# Altium schematic symbol library Basic Devices.SCHLIB: 237 symbols (part 2 of 2)
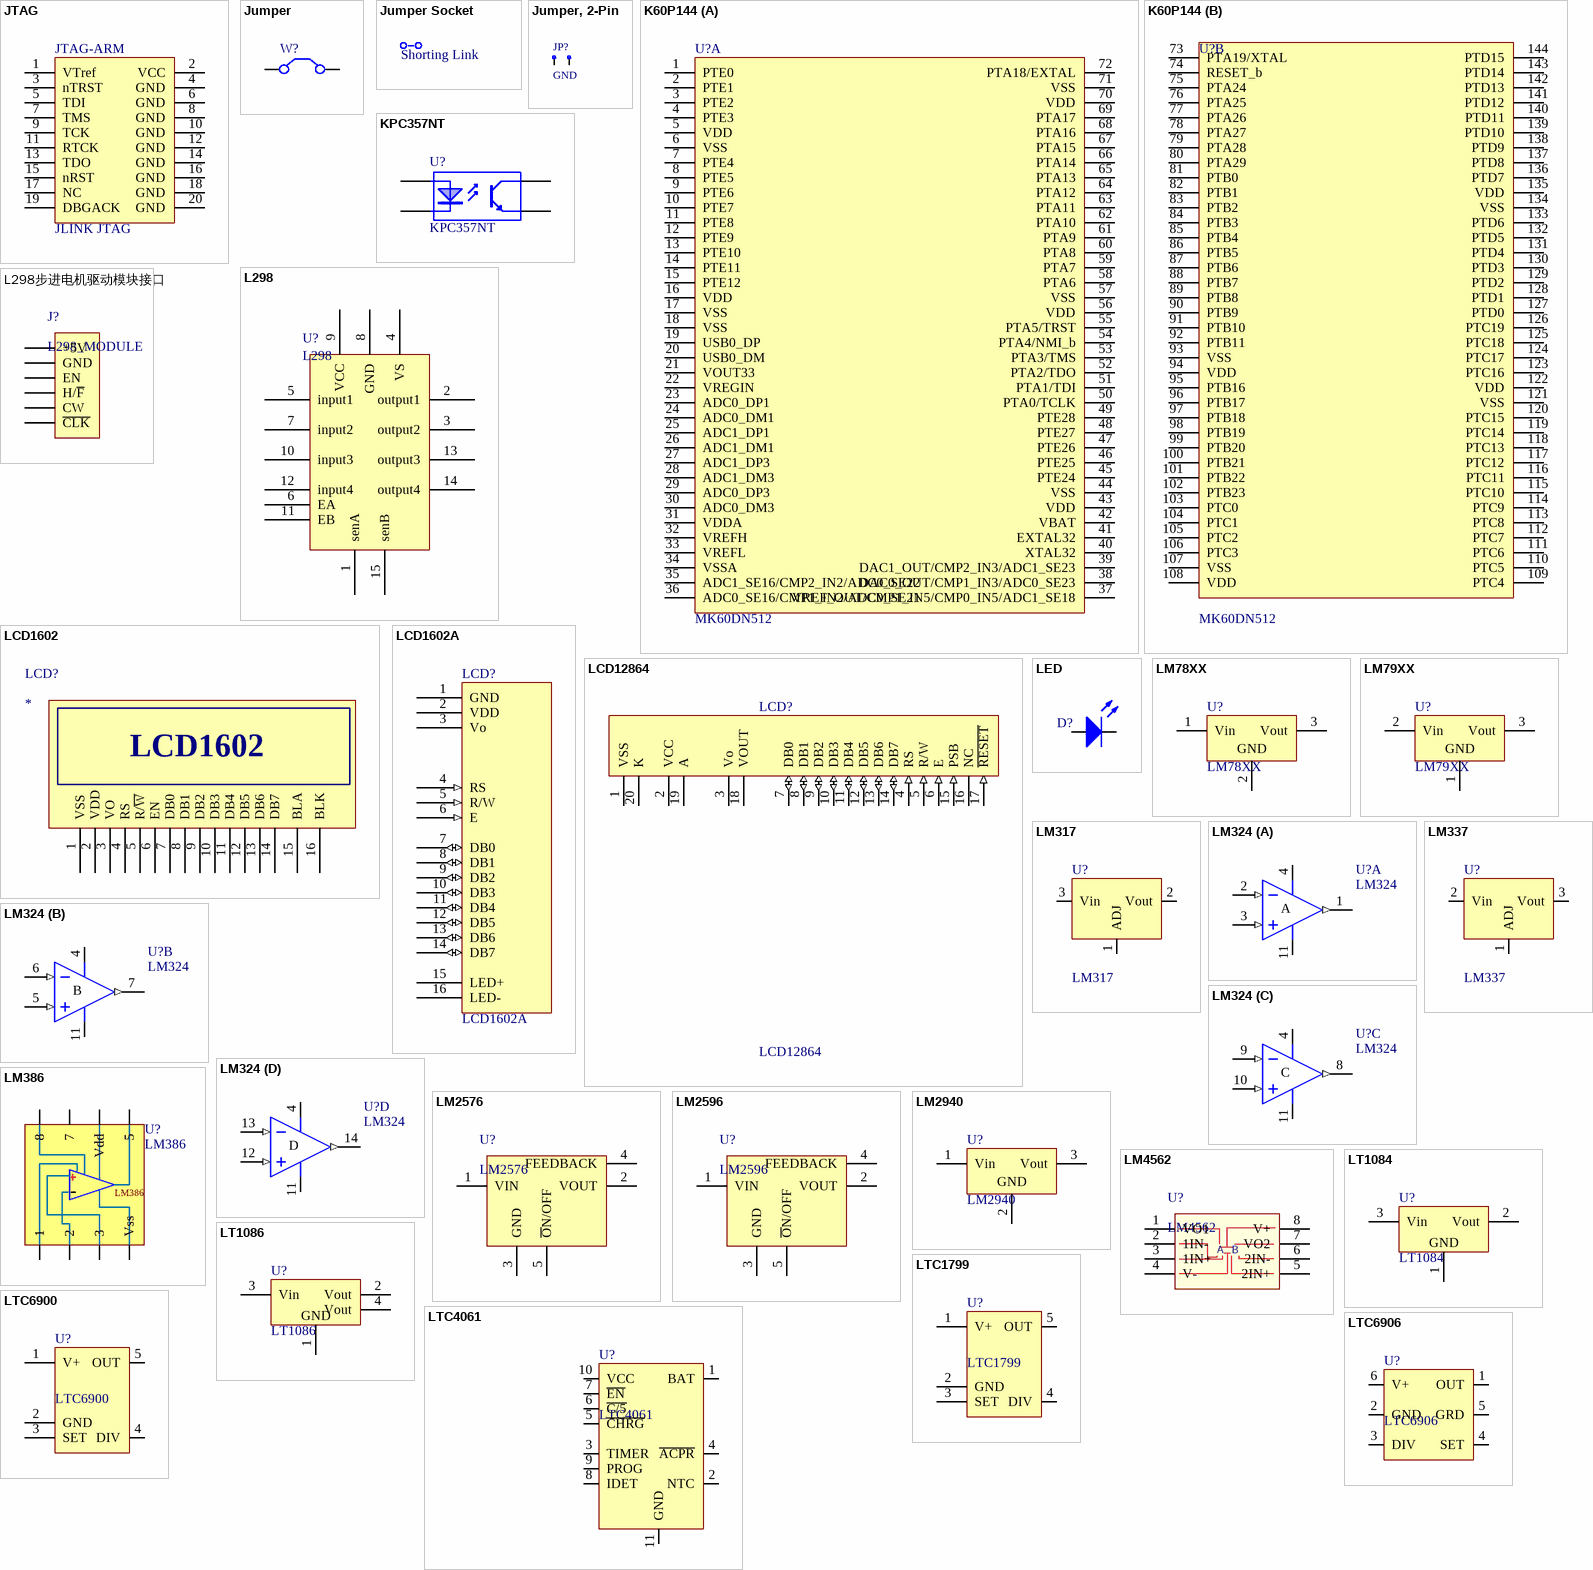
[diagram p9: symbols JTAG to LTC6906]

## LM324
designator U?
General Operational Amplifier; Published: 8-Jun-2000; LatestRevisionDate: 04-Mar-2005; LatestRevisionNote: Stylized 3D Model Added.; DatasheetVersion: REV. 0 1995; PackageVersion: 1999; PackageReference: N-14; Publisher: Altium Limited; PackageDescription: DIP; 14 Leads; Row Spacing 7.62 mm; Pitch 2.54 mm; ComponentLink1Description: Manufacturer Link; ComponentLink1URL: http://www.analog.com/en/prod/0,,759_786_AD8044%2C00.html; ComponentLink2Description: Datasheet; ComponentLink2URL: http://www.analog.com/UploadedFiles/Data_Sheets/631034639AD8044_b.pdf
footprint DIP-14 (DIP, 14-Leads, Row Spacing 300mil, Pitch 2.54mm, Body 19.2x6.3mm)
pins on every part: 4 V+ (power), 11 V- (power)
part A pins: 1 OUT (out), 2 IN- (in), 3 IN+ (in)
part B pins: 5 IN+ (in), 6 IN- (in), 7 OUT (out)
part C pins: 8 OUT (out), 9 IN- (in), 10 IN+ (in)
part D pins: 12 IN+ (in), 13 IN- (in), 14 OUT (out)
part A text: A
part B text: B
part C text: C
part D text: D

## LM337
designator U?
三端可调正电压稳压器
footprint TO-220AB
footprint TO-263
pins: 1 ADJ, 2 Vin, 3 Vout

## LM386
designator U?
低电压音频功率放大器
footprint DIP-8
pins: 1, 2, 3, 4 Vss, 5, 6 Vdd, 7, 8

## LM2576
designator U?
Step-Down Switching Regulator; NAME: GARRRETT
footprint DDPAK-5
footprint TO-220-5 (LM2576 PACKAGE)
pins: 1 VIN, 2 VOUT, 3 GND, 4 FEEDBACK, 5 ~{O}N/OFF

## LM2596
designator U?
Step-Down Switching Regulator; NAME: GARRETT
footprint DDPAK-5
footprint TO-220-5 (LM2576 PACKAGE)
pins: 1 VIN, 2 VOUT, 3 GND, 4 FEEDBACK, 5 ~{O}N/OFF

## LM2940
designator U?
Voltage Regulator; Published: 24-Mar-1999; LatestRevisionDate: 17-Jul-2002; LatestRevisionNote: Re-released for DXP Platform.; PackageReference: D2PAK; Publisher: Altium Limited; Code_JEDEC: SMD-220
footprint TO-220AB
footprint TO-263
pins: 1 Vin, 2 GND, 3 Vout
2 alternate drawings of the same symbol

## LM4562
designator U?
LM4562 Dual High-Performance, High-Fidelity Audio Operational Amplifier
footprint DIP-8
footprint SOP-8
pins: 1 VO1, 2 1IN-, 3 1IN+, 4 V-, 5 2IN+, 6 2IN-, 7 VO2, 8 V+
text: A; B

## LT1084
designator U?
3A Low Dropout Positive Regulators Adjustable and  Fixed 2.85V, 3.3V, 3.6V, 5V, 12V; Published: 2014-4-4; LatestRevisionDate: 17-Jul-2002; LatestRevisionNote: Re-released for DXP Platform.; PackageReference: TO-263; Publisher: 赵国涛; Code_JEDEC: SMD-220
footprint TO-220AB
pins: 1 GND, 2 Vout, 3 Vin

## LT1086
designator U?
1.5A Low Dropout Positive Regulators Adjustable and  Fixed 2.85V, 3.3V, 3.6V, 5V, 12V; Published: 2014-4-4; LatestRevisionDate: 17-Jul-2002; LatestRevisionNote: Re-released for DXP Platform.; PackageReference: TO-263; Publisher: 赵国涛; Code_JEDEC: SMD-220
footprint TO-263
pins: 1 GND, 2 Vout, 3 Vin, 4 Vout

## LTC1799
designator U?
Low Power, 1kHz to 30MHz   Resistor Set SOT-23 Oscillator; Published: 2014-4-4; LatestRevisionDate: 17-Jul-2002; LatestRevisionNote: Re-released for DXP Platform.; PackageReference: TO-263; Publisher: 赵国涛; Code_JEDEC: SMD-220
footprint SOT23-5 (SOT23, 5-Leads, Body 2.9x1.6mm, Pitch 0.95mm, Lead Span 2.8mm, IPC High Density)
pins: 1 V+, 2 GND, 3 SET, 4 DIV, 5 OUT

## LTC4061
designator U?
Standalone Linear Li-Ion Battery Charger with Thermistor Input; 应用: MP3、数码相机、平板等; Published: 2014-4-4; LatestRevisionDate: 17-Jul-2002; LatestRevisionNote: Re-released for DXP Platform.; PackageReference: DFN-10; Publisher: 赵国涛; Code_JEDEC: SMD-220
footprint DFN-10 (10-Lead Plastic DFN (3mm × 3mm); pitch 0.5mm)
pins: 1 BAT, 2 NTC, 3 TIMER, 4 ~{ACPR}, 5 ~{CHRG}, 6 ~{C/5}, 7 ~{EN}, 8 IDET, 9 PROG, 10 VCC, 11 GND

## LTC6900
designator U?
Low Power, 1kHz to 20MHz   Resistor Set SOT-23 Oscillator; Published: 2014-4-4; LatestRevisionDate: 17-Jul-2002; LatestRevisionNote: Re-released for DXP Platform.; PackageReference: TO-263; Publisher: 赵国涛; Code_JEDEC: SMD-220
footprint SOT23-5 (SOT23, 5-Leads, Body 2.9x1.6mm, Pitch 0.95mm, Lead Span 2.8mm, IPC High Density)
pins: 1 V+, 2 GND, 3 SET, 4 DIV, 5 OUT

## LTC6906
designator U?
Micropower, 10kHz to 1MHz   Resistor Set Oscillator   in SOT-23; Published: 2014-4-4; LatestRevisionDate: 17-Jul-2002; LatestRevisionNote: Re-released for DXP Platform.; PackageReference: TO-263; Publisher: 赵国涛; Code_JEDEC: SMD-220
footprint SOT23-6 (SOT-23-6)
pins: 1 OUT, 2 GND, 3 DIV, 4 SET, 5 GRD, 6 V+

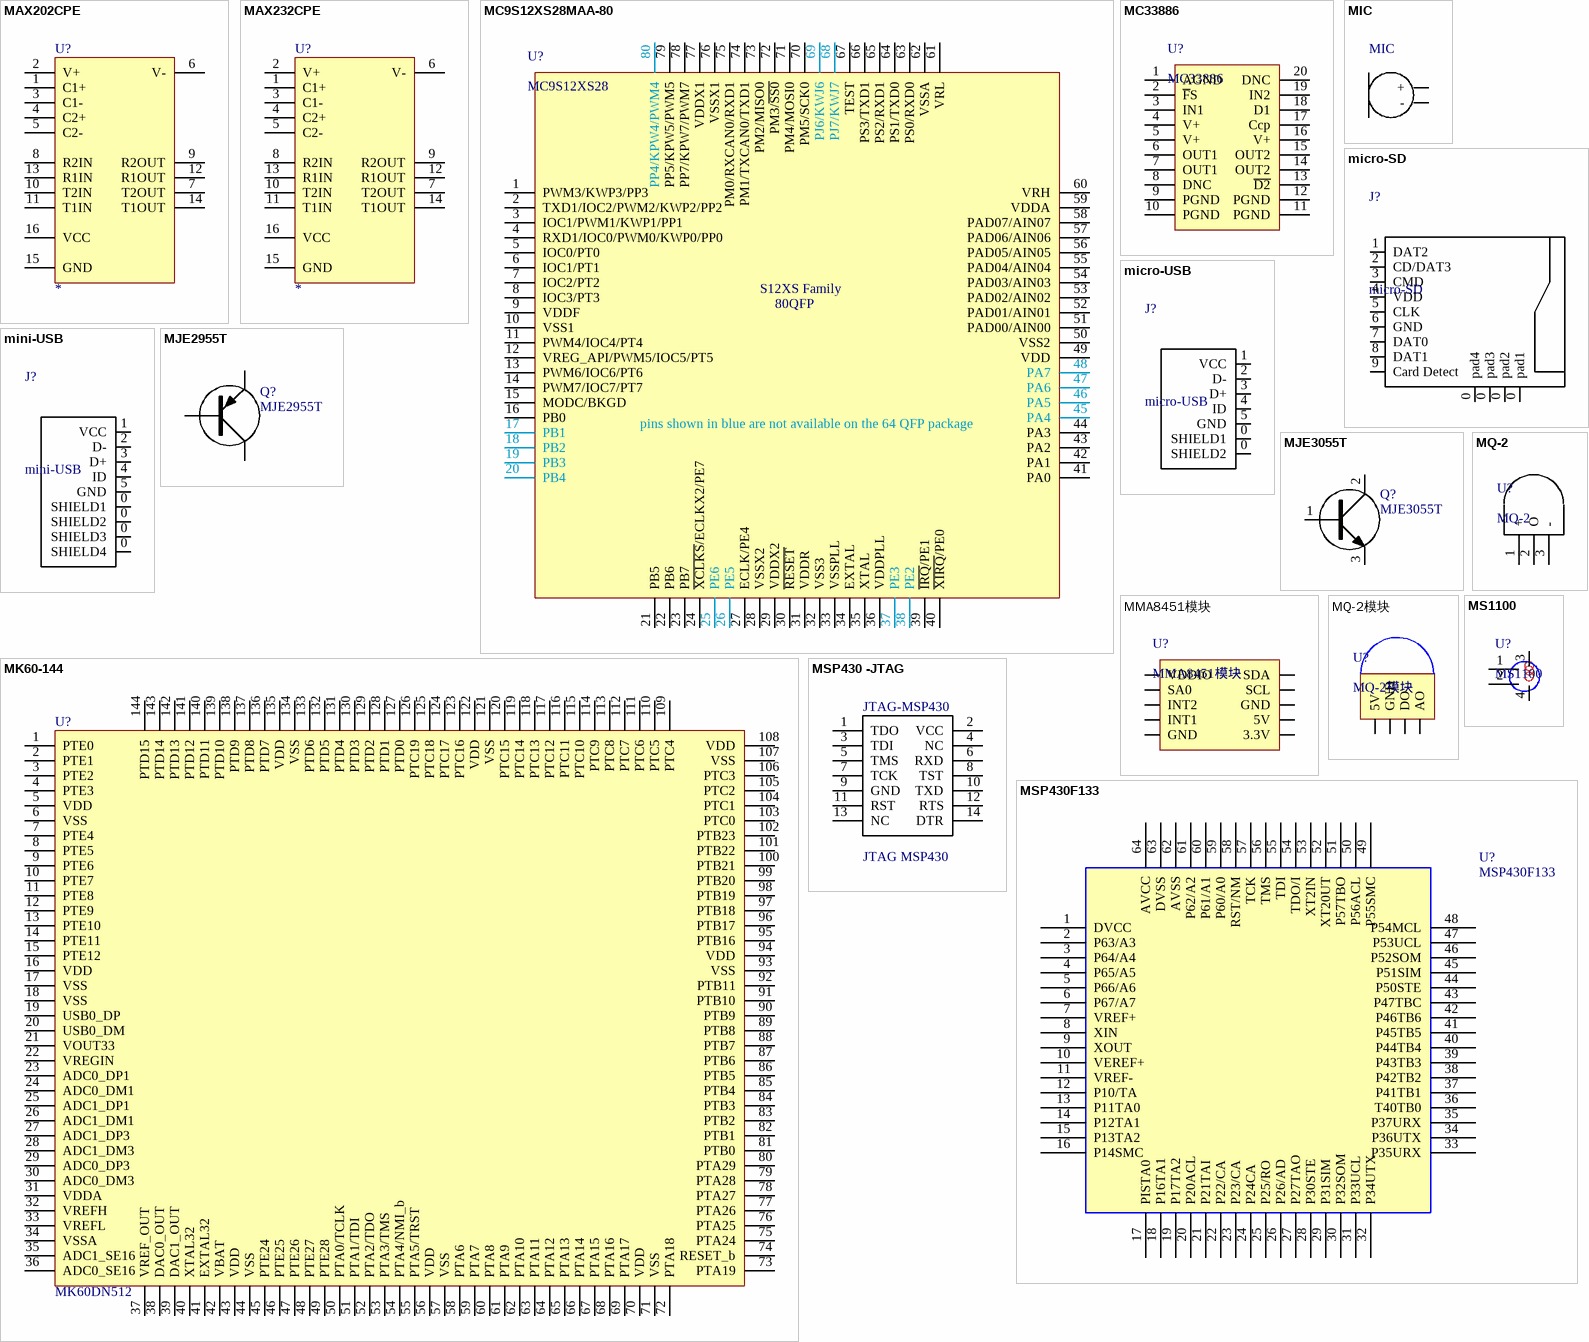
[diagram p4: symbols MAX202CPE to MSP430F133]

## MAX202CPE
designator U?
+5V-Powered, Multichannel RS-232
footprint DIP-16 (CHAZUO)
pins: 1 C1+, 2 V+, 3 C1-, 4 C2+, 5 C2-, 6 V-, 7 T2OUT, 8 R2IN, 9 R2OUT, 10 T2IN, 11 T1IN, 12 R1OUT, 13 R1IN, 14 T1OUT, 15 GND (power), 16 VCC (power)

## MAX232CPE
designator U?
RS232 TO TTL
footprint DIP-16 (CHAZUO)
pins: 1 C1+, 2 V+, 3 C1-, 4 C2+, 5 C2-, 6 V-, 7 T2OUT, 8 R2IN, 9 R2OUT, 10 T2IN, 11 T1IN, 12 R1OUT, 13 R1IN, 14 T1OUT, 15 GND (power), 16 VCC (power)

## MC9S12XS28MAA-80
designator U?, comment MC9S12XS28
飞思卡尔16位单片机; Publi: 胡浩; Published: 20110927
footprint QFP-80N (QFP, 80-Leads, Body 17.5x17.5mm (max), Pitch 0.65mm, IPC Medium Density)
pins: 1 PWM3/KWP3/PP3, 2 TXD1/IOC2/PWM2/KWP2/PP2, 3 IOC1/PWM1/KWP1/PP1, 4 RXD1/IOC0/PWM0/KWP0/PP0, 5 IOC0/PT0, 6 IOC1/PT1, 7 IOC2/PT2, 8 IOC3/PT3, 9 VDDF, 10 VSS1, 11 PWM4/IOC4/PT4, 12 VREG_API/PWM5/IOC5/PT5, 13 PWM6/IOC6/PT6, 14 PWM7/IOC7/PT7, 15 MODC/BKGD, 16 PB0, 17 PB1, 18 PB2, 19 PB3, 20 PB4, 21 PB5, 22 PB6, 23 PB7, 24 ~{XCLKS}/ECLKX2/PE7, 25 PE6, 26 PE5, 27 ECLK/PE4, 28 VSSX2, 29 VDDX2, 30 ~{RESET}, 31 VDDR, 32 VSS3, 33 VSSPLL, 34 EXTAL, 35 XTAL, 36 VDDPLL, 37 PE3, 38 PE2, 39 ~{IRQ}/PE1, 40 ~{XIRQ}/PE0, 41 PA0, 42 PA1, 43 PA2, 44 PA3, 45 PA4, 46 PA5, 47 PA6, 48 PA7, 49 VDD, 50 VSS2, 51 PAD00/AIN00, 52 PAD01/AIN01, 53 PAD02/AIN02, 54 PAD03/AIN03, 55 PAD04/AIN04, 56 PAD05/AIN05, 57 PAD06/AIN06, 58 PAD07/AIN07, 59 VDDA, 60 VRH, 61 VRL, 62 VSSA, 63 PS0/RXD0, 64 PS1/TXD0, 65 PS2/RXD1, 66 PS3/TXD1, 67 TEST, 68 PJ7/KWJ7, 69 PJ6/KWJ6, 70 PM5/SCK0, 71 PM4/MOSI0, 72 PM3/~{SS0}, 73 PM2/MISO0, 74 PM1/TXCAN0/TXD1, 75 PM0/RXCAN0/RXD1, 76 VSSX1, 77 VDDX1, 78 PP7/KPW7/PWM7, 79 PP5/KPW5/PWM5, 80 PP4/KPW4/PWM4
text: S12XS Family; 80QFP; pins shown in blue are not available on the 64 QFP package

## MC33886
designator U?
H brigde，5A
footprint HSOP20 (MC33886 PACKAGE)
pins: 1 AGND, 2 ~{F}S, 3 IN1, 4 V+, 5 V+, 6 OUT1, 7 OUT1, 8 DNC, 9 PGND, 10 PGND, 11 PGND, 12 PGND, 13 ~{D2}, 14 OUT2, 15 OUT2, 16 V+, 17 Ccp, 18 D1, 19 IN2, 20 DNC

## MIC
designator MIC, comment 驻极体话筒  (value not drawn)
Publisher: 赵国涛; Published: 2014.11.5
footprint BUZZER_200 (buzzer; 2 leads; 200mil;)
footprint 1001-2 (100mil pitch)
pins: 1 +, 2 -

## micro-SD
designator J?
micro sd卡座 记忆卡 座子;手机内存卡
footprint micro-sd - 2
pins: 0 pad1, 0 pad2, 0 pad3, 0 pad4, 1 DAT2, 2 CD/DAT3, 3 CMD, 4 VDD, 5 CLK, 6 GND, 7 DAT0, 8 DAT1, 9 Card Detect

## micro-USB
designator J?
micro-USB接口,母座;一般智能机用的
footprint micro-usb-smt1 (Micro USB母座；5 脚贴片)
footprint micro-usb-smt2
pins: 0 SHIELD1, 0 SHIELD2, 1 VCC, 2 D-, 3 D+, 4 ID, 5 GND

## mini-USB
designator J?
mini-USB接口,母座；一般开发板、MP3等设备用的
footprint mini-usb-dip (mini-USB；90度弯针 直插型；5Pin)
footprint mini_USB-SMT
pins: 0 SHIELD1, 0 SHIELD2, 0 SHIELD3, 0 SHIELD4, 1 VCC, 2 D-, 3 D+, 4 ID, 5 GND

## MJE2955T
designator Q?
PNP Silicon Transistor;General Purpose and Switching Applications
footprint IRF640+散热片
footprint IRFP260带散热片
footprint irf640/散热片
footprint TO-220AB
pins: 1 B, 2 C, 3 E
2 alternate drawings of the same symbol

## MJE3055T
designator Q?
iscSilicon NPN Power Transistor
footprint TO-220AB
footprint IRF640+散热片
footprint IRFP260带散热片
footprint irf640/散热片
pins: 1, 2, 3
2 alternate drawings of the same symbol

## MK60-144
designator U?, comment MK60DN512
footprint LQFP144 (LQFP144; Freescale mk60)
footprint TQFP-144 (Thin QFP, 144-Leads, Body 20x20mm, Pitch 0.5mm, IPC High Density)
pins: 1 PTE0, 2 PTE1, 3 PTE2, 4 PTE3, 5 VDD, 6 VSS, 7 PTE4, 8 PTE5, 9 PTE6, 10 PTE7, 11 PTE8, 12 PTE9, 13 PTE10, 14 PTE11, 15 PTE12, 16 VDD, 17 VSS, 18 VSS, 19 USB0_DP, 20 USB0_DM, 21 VOUT33, 22 VREGIN, 23 ADC0_DP1, 24 ADC0_DM1, 25 ADC1_DP1, 26 ADC1_DM1, 27 ADC1_DP3, 28 ADC1_DM3, 29 ADC0_DP3, 30 ADC0_DM3, 31 VDDA, 32 VREFH, 33 VREFL, 34 VSSA, 35 ADC1_SE16, 36 ADC0_SE16, 37 VREF_OUT, 38 DAC0_OUT, 39 DAC1_OUT, 40 XTAL32, 41 EXTAL32, 42 VBAT, 43 VDD, 44 VSS, 45 PTE24, 46 PTE25, 47 PTE26, 48 PTE27, 49 PTE28, 50 PTA0/TCLK, 51 PTA1/TDI, 52 PTA2/TDO, 53 PTA3/TMS, 54 PTA4/NMI_b, 55 PTA5/TRST, 56 VDD, 57 VSS, 58 PTA6, 59 PTA7, 60 PTA8, 61 PTA9, 62 PTA10, 63 PTA11, 64 PTA12, 65 PTA13, 66 PTA14, 67 PTA15, 68 PTA16, 69 PTA17, 70 VDD, 71 VSS, 72 PTA18, 73 PTA19, 74 RESET_b, 75 PTA24, 76 PTA25, 77 PTA26, 78 PTA27, 79 PTA28, 80 PTA29, 81 PTB0, 82 PTB1, 83 PTB2, 84 PTB3, 85 PTB4, 86 PTB5, 87 PTB6, 88 PTB7, 89 PTB8, 90 PTB9, 91 PTB10, 92 PTB11, 93 VSS, 94 VDD, 95 PTB16, 96 PTB17, 97 PTB18, 98 PTB19, 99 PTB20, 100 PTB21, 101 PTB22, 102 PTB23, 103 PTC0, 104 PTC1, 105 PTC2, 106 PTC3, 107 VSS, 108 VDD, 109 PTC4, 110 PTC5, 111 PTC6, 112 PTC7, 113 PTC8, 114 PTC9, 115 PTC10, 116 PTC11, 117 PTC12, 118 PTC13, 119 PTC14, 120 PTC15, 121 VSS, 122 VDD, 123 PTC16, 124 PTC17, 125 PTC18, 126 PTC19, 127 PTD0, 128 PTD1, 129 PTD2, 130 PTD3, 131 PTD4, 132 PTD5, 133 PTD6, 134 VSS, 135 VDD, 136 PTD7, 137 PTD8, 138 PTD9, 139 PTD10, 140 PTD11, 141 PTD12, 142 PTD13, 143 PTD14, 144 PTD15

## MMA8451模块
designator U?
MMA8451模块封装; Publisher: 赵国涛; Published: 20110214
footprint MMA8451模块 (MMA8451模块封装，21mmX15mm,PITCH 700mil)
pins: 1 VDDIO, 2 SA0, 3 INT2, 4 INT1, 5 GND, 6 3.3V, 7 5V, 8 GND, 9 SCL, 10 SDA

## MQ-2
designator U?
可燃气体传感器
pins: 1 +, 2 O, 3 -

## MQ-2模块
designator U?
可燃气体传感器MQ-2模块
footprint 1001-4 (Connector; Header; 4 Position)
pins: 1 5V, 2 GND, 3 DO, 4 AO

## MS1100
designator U?
MS1100: 气体传感器
footprint TO-39 -4 (MS1100)
pins: 1, 2, 3, 4

## MSP430 -JTAG
designator JTAG-MSP430, comment JTAG MSP430
JTAG PIN FOR MSP430; LatestRevisionDate: 17-Jul-2002; LatestRevisionNote: Re-released for DXP Platform.; Publisher: Altium Limited
footprint P2X7 (Connector; Header; 7x2 Position)
pins: 1 TDO, 2 VCC, 3 TDI, 4 NC, 5 TMS, 6 RXD, 7 TCK, 8 TST, 9 GND, 10 TXD, 11 RST, 12 RTS, 13 NC, 14 DTR

## MSP430F133
designator U?
TI MSP430系列单片机
footprint QFP-64 (Thin QFP, 64-Leads, Body 10x10mm, Pitch 0.5mm, IPC High Density)
pins: 1 DVCC, 2 P63/A3, 3 P64/A4, 4 P65/A5, 5 P66/A6, 6 P67/A7, 7 VREF+, 8 XIN, 9 XOUT, 10 VEREF+, 11 VREF-, 12 P10/TA, 13 P11TA0, 14 P12TA1, 15 P13TA2, 16 P14SMC, 17 PISTA0, 18 P16TA1, 19 P17TA2, 20 P20ACL, 21 P21TAI, 22 P22/CA, 23 P23/CA, 24 P24CA, 25 P25/RO, 26 P26/AD, 27 P27TAO, 28 P30STE, 29 P31SIM, 30 P32SOM, 31 P33UCL, 32 P34UTX, 33 P35URX, 34 P36UTX, 35 P37URX, 36 T40TB0, 37 P41TB1, 38 P42TB2, 39 P43TB3, 40 P44TB4, 41 P45TB5, 42 P46TB6, 43 P47TBC, 44 P50STE, 45 P51SIM, 46 P52SOM, 47 P53UCL, 48 P54MCL, 49 P55SMC, 50 P56ACL, 51 P57TBO, 52 XT20UT, 53 XT2IN, 54 TDO/I, 55 TDI, 56 TMS, 57 TCK, 58 RST/NM, 59 P60/A0, 60 P61/A1, 61 P62/A2, 62 AVSS, 63 DVSS, 64 AVCC

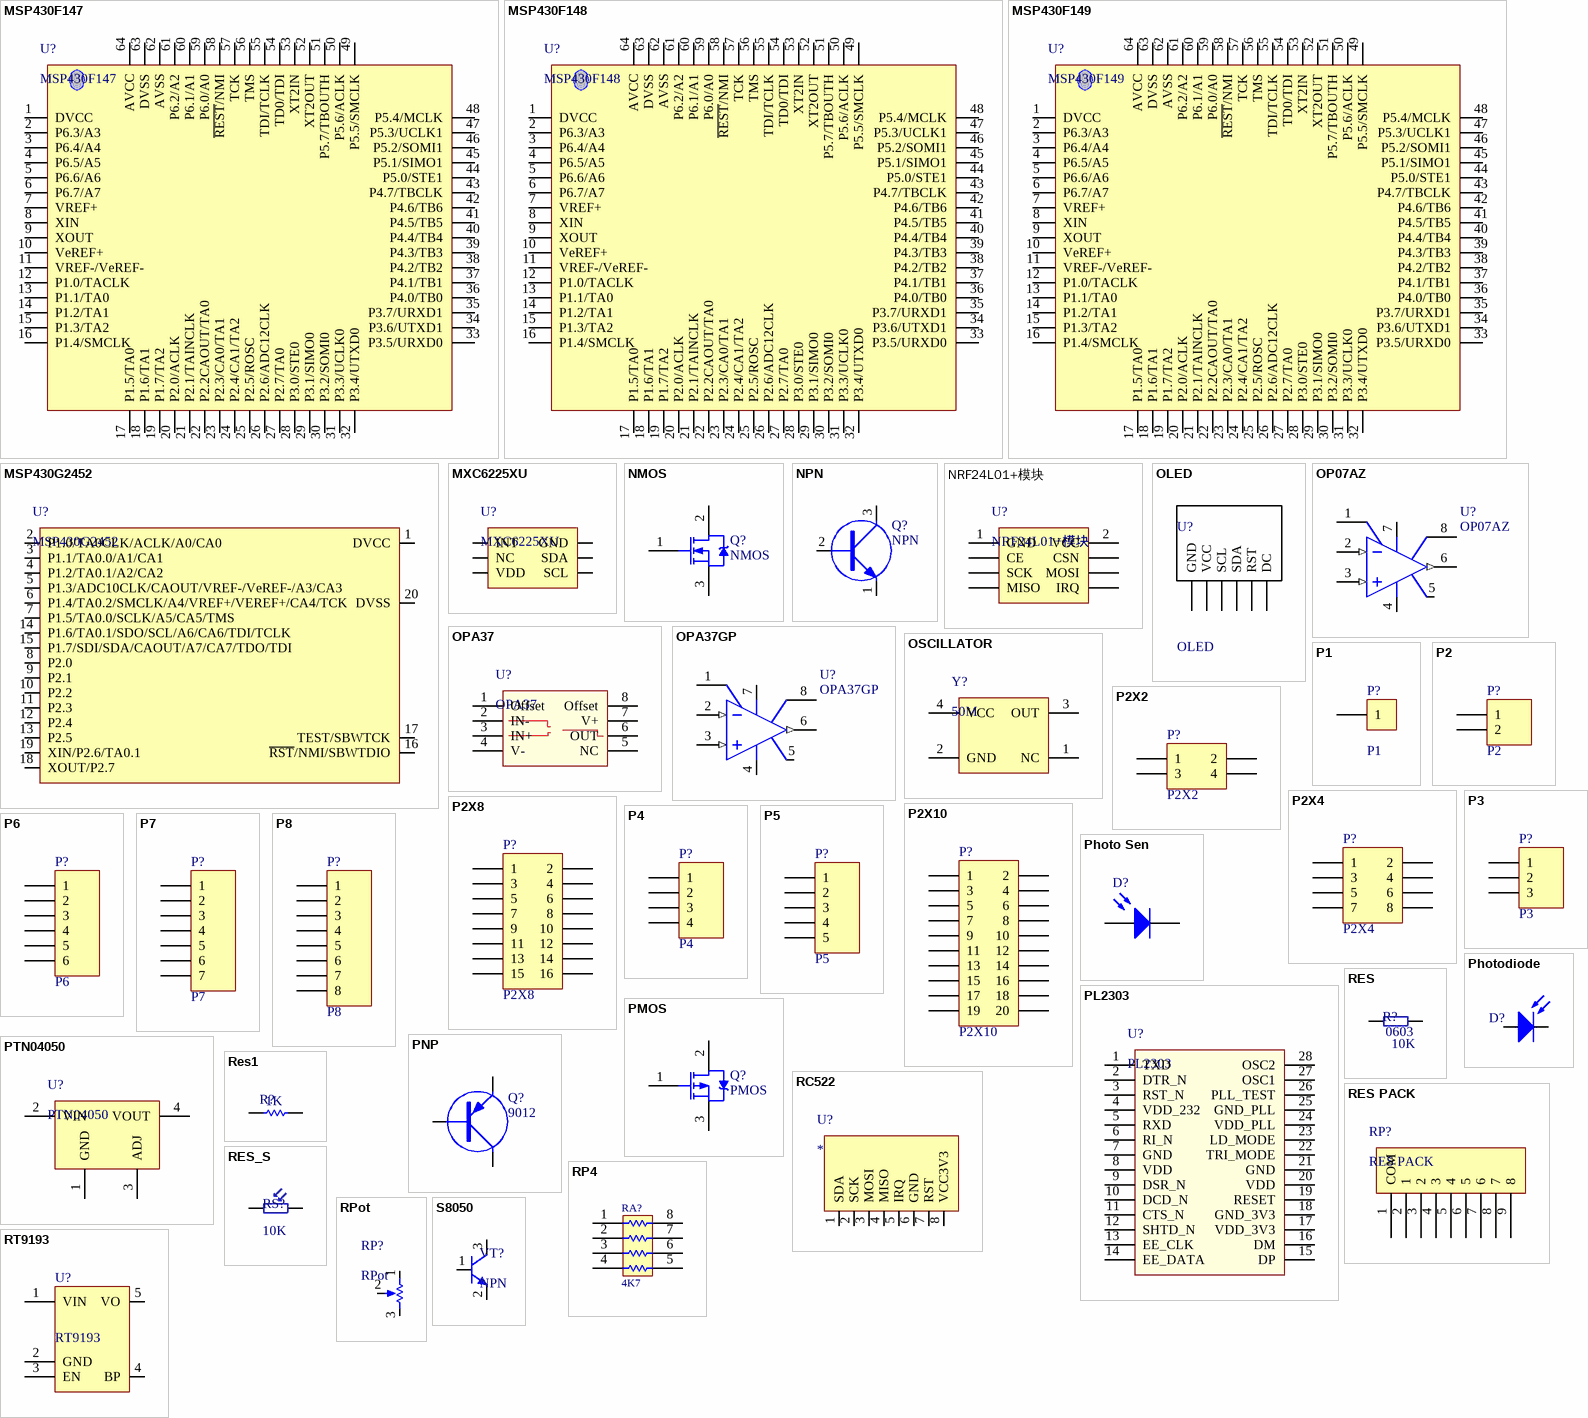
[diagram p5: symbols MSP430F147 to S8050]

## MSP430F147
designator U?
TI MSP430系列单片机：支持147、148、149; 作者: 赵国涛
footprint QFP-64 (Thin QFP, 64-Leads, Body 10x10mm, Pitch 0.5mm, IPC High Density)
pins: 1 DVCC, 2 P6.3/A3, 3 P6.4/A4, 4 P6.5/A5, 5 P6.6/A6, 6 P6.7/A7, 7 VREF+, 8 XIN, 9 XOUT, 10 VeREF+, 11 VREF-/VeREF-, 12 P1.0/TACLK, 13 P1.1/TA0, 14 P1.2/TA1, 15 P1.3/TA2, 16 P1.4/SMCLK, 17 P1.5/TA0, 18 P1.6/TA1, 19 P1.7/TA2, 20 P2.0/ACLK, 21 P2.1/TAINCLK, 22 P2.2CAOUT/TA0, 23 P2.3/CA0/TA1, 24 P2.4/CA1/TA2, 25 P2.5/ROSC, 26 P2.6/ADC12CLK, 27 P2.7/TA0, 28 P3.0/STE0, 29 P3.1/SIMO0, 30 P3.2/SOMI0, 31 P3.3/UCLK0, 32 P3.4/UTXD0, 33 P3.5/URXD0, 34 P3.6/UTXD1, 35 P3.7/URXD1, 36 P4.0/TB0, 37 P4.1/TB1, 38 P4.2/TB2, 39 P4.3/TB3, 40 P4.4/TB4, 41 P4.5/TB5, 42 P4.6/TB6, 43 P4.7/TBCLK, 44 P5.0/STE1, 45 P5.1/SIMO1, 46 P5.2/SOMI1, 47 P5.3/UCLK1, 48 P5.4/MCLK, 49 P5.5/SMCLK, 50 P5.6/ACLK, 51 P5.7/TBOUTH, 52 XT2OUT, 53 XT2IN, 54 TD0/TDI, 55 TDI/TCLK, 56 TMS, 57 TCK, 58 ~{REST}/NMI, 59 P6.0/A0, 60 P6.1/A1, 61 P6.2/A2, 62 AVSS, 63 DVSS, 64 AVCC

## MSP430F148
designator U?
TI MSP430系列单片机：支持147、148、149; 作者: 赵国涛
footprint QFP-64 (Thin QFP, 64-Leads, Body 10x10mm, Pitch 0.5mm, IPC High Density)
pins: 1 DVCC, 2 P6.3/A3, 3 P6.4/A4, 4 P6.5/A5, 5 P6.6/A6, 6 P6.7/A7, 7 VREF+, 8 XIN, 9 XOUT, 10 VeREF+, 11 VREF-/VeREF-, 12 P1.0/TACLK, 13 P1.1/TA0, 14 P1.2/TA1, 15 P1.3/TA2, 16 P1.4/SMCLK, 17 P1.5/TA0, 18 P1.6/TA1, 19 P1.7/TA2, 20 P2.0/ACLK, 21 P2.1/TAINCLK, 22 P2.2CAOUT/TA0, 23 P2.3/CA0/TA1, 24 P2.4/CA1/TA2, 25 P2.5/ROSC, 26 P2.6/ADC12CLK, 27 P2.7/TA0, 28 P3.0/STE0, 29 P3.1/SIMO0, 30 P3.2/SOMI0, 31 P3.3/UCLK0, 32 P3.4/UTXD0, 33 P3.5/URXD0, 34 P3.6/UTXD1, 35 P3.7/URXD1, 36 P4.0/TB0, 37 P4.1/TB1, 38 P4.2/TB2, 39 P4.3/TB3, 40 P4.4/TB4, 41 P4.5/TB5, 42 P4.6/TB6, 43 P4.7/TBCLK, 44 P5.0/STE1, 45 P5.1/SIMO1, 46 P5.2/SOMI1, 47 P5.3/UCLK1, 48 P5.4/MCLK, 49 P5.5/SMCLK, 50 P5.6/ACLK, 51 P5.7/TBOUTH, 52 XT2OUT, 53 XT2IN, 54 TD0/TDI, 55 TDI/TCLK, 56 TMS, 57 TCK, 58 ~{REST}/NMI, 59 P6.0/A0, 60 P6.1/A1, 61 P6.2/A2, 62 AVSS, 63 DVSS, 64 AVCC

## MSP430F149
designator U?
TI MSP430系列单片机：支持147、148、149; 作者: 赵国涛
footprint QFP-64 (Thin QFP, 64-Leads, Body 10x10mm, Pitch 0.5mm, IPC High Density)
pins: 1 DVCC, 2 P6.3/A3, 3 P6.4/A4, 4 P6.5/A5, 5 P6.6/A6, 6 P6.7/A7, 7 VREF+, 8 XIN, 9 XOUT, 10 VeREF+, 11 VREF-/VeREF-, 12 P1.0/TACLK, 13 P1.1/TA0, 14 P1.2/TA1, 15 P1.3/TA2, 16 P1.4/SMCLK, 17 P1.5/TA0, 18 P1.6/TA1, 19 P1.7/TA2, 20 P2.0/ACLK, 21 P2.1/TAINCLK, 22 P2.2CAOUT/TA0, 23 P2.3/CA0/TA1, 24 P2.4/CA1/TA2, 25 P2.5/ROSC, 26 P2.6/ADC12CLK, 27 P2.7/TA0, 28 P3.0/STE0, 29 P3.1/SIMO0, 30 P3.2/SOMI0, 31 P3.3/UCLK0, 32 P3.4/UTXD0, 33 P3.5/URXD0, 34 P3.6/UTXD1, 35 P3.7/URXD1, 36 P4.0/TB0, 37 P4.1/TB1, 38 P4.2/TB2, 39 P4.3/TB3, 40 P4.4/TB4, 41 P4.5/TB5, 42 P4.6/TB6, 43 P4.7/TBCLK, 44 P5.0/STE1, 45 P5.1/SIMO1, 46 P5.2/SOMI1, 47 P5.3/UCLK1, 48 P5.4/MCLK, 49 P5.5/SMCLK, 50 P5.6/ACLK, 51 P5.7/TBOUTH, 52 XT2OUT, 53 XT2IN, 54 TD0/TDI, 55 TDI/TCLK, 56 TMS, 57 TCK, 58 ~{REST}/NMI, 59 P6.0/A0, 60 P6.1/A1, 61 P6.2/A2, 62 AVSS, 63 DVSS, 64 AVCC

## MSP430G2452
designator U?
MSP430; 作者: 赵国涛
footprint DIP-20 (WIDTH:300MIL)
pins: 1 DVCC, 2 P1.0/TA0CLK/ACLK/A0/CA0, 3 P1.1/TA0.0/A1/CA1, 4 P1.2/TA0.1/A2/CA2, 5 P1.3/ADC10CLK/CAOUT/VREF-/VeREF-/A3/CA3, 6 P1.4/TA0.2/SMCLK/A4/VREF+/VEREF+/CA4/TCK, 7 P1.5/TA0.0/SCLK/A5/CA5/TMS, 8 P2.0, 9 P2.1, 10 P2.2, 11 P2.3, 12 P2.4, 13 P2.5, 14 P1.6/TA0.1/SDO/SCL/A6/CA6/TDI/TCLK, 15 P1.7/SDI/SDA/CAOUT/A7/CA7/TDO/TDI, 16 ~{RST}/NMI/SBWTDIO, 17 TEST/SBWTCK, 18 XOUT/P2.7, 19 XIN/P2.6/TA0.1, 20 DVSS

## MXC6225XU
designator U?
MXC6225XU:X-Y ACCE; Publisher: 赵国涛; Published: 20110214
footprint MXC6225XU
pins: 1 INT, 2 NC, 3 VDD, 4 SCL, 5 SDA, 6 GND

## NMOS
designator Q?
N-Channel Power MOSFET; Note: Pin 2 is electrically connected to pin 4.; Published: 8-Jun-2000; LatestRevisionDate: 17-Jul-2002; LatestRevisionNote: Re-released for DXP Platform.; DatasheetVersion: PD-9.814; PackageVersion: Feb-1997; PackageReference: TO-220AB; Publisher: Altium Limited; PackageDescription: TO, Thru-Hole, Vertical, Heatsink Mounted; 3 In-Line Leads; Pitch 2.54 mm; ComponentLink1Description: Manufacturer Link; ComponentLink1URL: http://www.irf.com/
footprint TO-220AB (TO, Thru-Hole, Vertical, Heatsink Mounted; 3 In-Line Leads; Pitch 2.54 mm)
footprint IRF640+散热片
footprint irf640/散热片
footprint IRFP260带散热片
pins: 1 G, 2 D, 3 S

## NPN
designator Q?
NPN晶体管
footprint TO-92
footprint TO-92A
footprint SOT23-3
footprint TO-220AB
footprint IRF640+散热片
footprint TO-92B
footprint TO-92C (50mil)
pins: 1, 2, 3
2 alternate drawings of the same symbol

## NRF24L01+模块
designator U?
footprint NRF24L01_MODULE (NRF24L01_模块；33mmX15.2mm)
pins: 1 GND, 2 VCC, 3 CE, 4 CSN, 5 SCK, 6 MOSI, 7 MISO, 8 IRQ

## OLED
designator U?
OLED interface; LatestRevisionDate: 17-Jul-2002; LatestRevisionNote: Re-released for DXP Platform.; Publisher: Altium Limited
footprint 1001-6 (Connector; Header; 6 Position)
pins: 1 GND, 2 VCC, 3 SCL, 4 SDA, 5 RST, 6 DC

## OP07AZ
designator U?
Ultra-Low Offset Voltage Operational Amplifier; Note: Pin 5 is not connected.; Published: 8-Jun-2000; LatestRevisionDate: 04-Mar-2005; LatestRevisionNote: Stylized 3D Model Added.; DatasheetVersion: 1992; PackageVersion: 1998; PackageReference: Q-8; Publisher: Altium Limited; PackageDescription: DIP; 8 Leads; Row Spacing 7.62 mm; Pitch 2.54 mm; ComponentLink1Description: Manufacturer Link; ComponentLink1URL: http://www.analog.com/en/prod/0,,759_786_OP07%2C00.html; ComponentLink2Description: Datasheet; ComponentLink2URL: http://www.analog.com/UploadedFiles/Data_Sheets/39161232478959OP07_c.pdf
footprint DIP-8
pins: 1 VOSTRIM, 2 IN- (in), 3 IN+ (in), 4 V- (power), 5 NC, 6 OUT (out), 7 V+ (power), 8 VOSTRIM

## OPA37
designator U?
Ultra-Low Noise, Precision  OPERATIONAL AMPLIFIERS
footprint DIP-8
footprint SOP-8
pins: 1 Offset, 2 IN-, 3 IN+, 4 V-, 5 NC, 6 OUT, 7 V+, 8 Offset

## OPA37GP
designator U?
OPA37GP 精密运放; Note: Pin 5 is not connected.; Published: 8-Jun-2000; LatestRevisionDate: 04-Mar-2005; LatestRevisionNote: Stylized 3D Model Added.; DatasheetVersion: 1992; PackageVersion: 1998; PackageReference: Q-8; Publisher: Altium Limited; PackageDescription: DIP; 8 Leads; Row Spacing 7.62 mm; Pitch 2.54 mm; ComponentLink1Description: Manufacturer Link; ComponentLink1URL: http://www.analog.com/en/prod/0,,759_786_OP07%2C00.html; ComponentLink2Description: Datasheet; ComponentLink2URL: http://www.analog.com/UploadedFiles/Data_Sheets/39161232478959OP07_c.pdf
footprint DIP-8
pins: 1 VOSTRIM, 2 IN- (in), 3 IN+ (in), 4 V- (power), 5 NC, 6 OUT (out), 7 V+ (power), 8 VOSTRIM

## OSCILLATOR
designator Y?, comment 50M
有源晶振; Publisher: 赵国涛; Published: 20100214
footprint 7050 (有源晶振封装;0.5 - 125 MHz; 5.0mmX7.0mm//5070)
footprint QSMO_4200 (有源晶振封装)
pins: 1 NC, 2 GND, 3 OUT, 4 VCC

## P1
designator P?
Header, 2-Pin; LatestRevisionDate: 17-Jul-2002; LatestRevisionNote: Re-released for DXP Platform.; Publisher: Altium Limited
footprint 1001-1 (插针;Pin 1)
pins: 1

## P2
designator P?
Header, 2-Pin; LatestRevisionDate: 17-Jul-2002; LatestRevisionNote: Re-released for DXP Platform.; Publisher: Altium Limited
footprint 1001-2 (Connector; Header; 2 Position)
footprint 050-2 (Connector; Header; 92Position)
footprint 接线端子
pins: 1, 2

## P2X2
designator P?
Header, 2-Pin, Dual row; LatestRevisionDate: 17-Jul-2002; LatestRevisionNote: Re-released for DXP Platform.; Publisher: Altium Limited
footprint P2X2 (Connector; Header; 2x2 Position)
pins: 1, 2, 3, 4

## P2X4
designator P?
Header, 4-Pin, Dual row; LatestRevisionDate: 17-Jul-2002; LatestRevisionNote: Re-released for DXP Platform.; Publisher: 赵国涛
footprint P2X4 (Connector; Header; 4x2 Position)
signal-integrity model Connector
pins: 1, 2, 3, 4, 5, 6, 7, 8

## P2X8
designator P?
Header, 8-Pin, Dual row; LatestRevisionDate: 17-Jul-2002; LatestRevisionNote: Re-released for DXP Platform.; Publisher: Altium Limited
footprint P2X8 (Connector; Header; 8x2 Position)
pins: 1, 2, 3, 4, 5, 6, 7, 8, 9, 10, 11, 12, 13, 14, 15, 16

## P2X10
designator P?
Header, 10-Pin, Dual row; LatestRevisionDate: 17-Jul-2002; LatestRevisionNote: Re-released for DXP Platform.; Publisher: Altium Limited
footprint P2X10 (Connector; Header; 10x2 Position)
signal-integrity model Connector
footprint P2X10B (Connector; Header; 10x2 Position;表贴)
pins: 1, 2, 3, 4, 5, 6, 7, 8, 9, 10, 11, 12, 13, 14, 15, 16, 17, 18, 19, 20

## P3
designator P?
Header, 3-Pin; LatestRevisionDate: 17-Jul-2002; LatestRevisionNote: Re-released for DXP Platform.; Publisher: Altium Limited
footprint 1001-3 (Connector; Header; 3 Position)
signal-integrity model Connector
footprint 050-3 (Connector; Header; 3Position)
footprint 接线端子3口
pins: 1, 2, 3

## P4
designator P?
Header, 4-Pin; LatestRevisionDate: 17-Jul-2002; LatestRevisionNote: Re-released for DXP Platform.; Publisher: Altium Limited
footprint 1001-4 (Connector; Header; 4 Position)
signal-integrity model Connector
pins: 1, 2, 3, 4

## P5
designator P?
Header, 5-Pin; LatestRevisionDate: 17-Jul-2002; LatestRevisionNote: Re-released for DXP Platform.; Publisher: Altium Limited
footprint 1001-5 (Connector; Header; 5 Position)
signal-integrity model Connector
pins: 1, 2, 3, 4, 5

## P6
designator P?
Header, 6-Pin; LatestRevisionDate: 17-Jul-2002; LatestRevisionNote: Re-released for DXP Platform.; Publisher: Altium Limited
footprint 1001-6 (Connector; Header; 6 Position)
pins: 1, 2, 3, 4, 5, 6

## P7
designator P?
Header, 7-Pin; LatestRevisionDate: 17-Jul-2002; LatestRevisionNote: Re-released for DXP Platform.; Publisher: Altium Limited
footprint 1001-7 (Connector; Header; 7 Position)
signal-integrity model Connector
pins: 1, 2, 3, 4, 5, 6, 7

## P8
designator P?
Header, 8-Pin; LatestRevisionDate: 17-Jul-2002; LatestRevisionNote: Re-released for DXP Platform.; Publisher: Altium Limited
footprint 1001-8 (Connector; Header; 8 Position)
signal-integrity model Connector
pins: 1, 2, 3, 4, 5, 6, 7, 8

## Photo Sen
designator D?
Photosensitive Diode; Published: 24-Mar-1999; LatestRevisionDate: 17-Jul-2002; LatestRevisionNote: Re-released for DXP Platform.; PackageReference: PIN2; Publisher: Altium Limited
footprint LED-A (LED-A; 2  leads)
pins: 1 A, 2 K

## Photodiode
designator D?  (value not drawn)
光电二极管; Published: 8-Jun-2000; LatestRevisionDate: 08-Jul-2005; LatestRevisionNote: Mech Layer 1 removed.; PackageReference: LED-0; Publisher: Altium Limited
footprint LED-A (LED-A; 2  leads)
footprint SMT_LED
pins: 1 正极, 2 负极
2 alternate drawings of the same symbol

## PL2303
designator U?
USB To Serial; Publisher: 胡浩; Published: 20120205
footprint SOP-28 (SOP, 28-Leads, Body 9.7x4.4mm, Pitch 0.65mm, IPC High Density)
pins: 1 TXD, 2 DTR_N, 3 RST_N, 4 VDD_232, 5 RXD, 6 RI_N, 7 GND, 8 VDD, 9 DSR_N, 10 DCD_N, 11 CTS_N, 12 SHTD_N, 13 EE_CLK, 14 EE_DATA, 15 DP "D+", 16 DM "D-", 17 VDD_3V3, 18 GND_3V3, 19 RESET, 20 VDD, 21 GND, 22 TRI_MODE, 23 LD_MODE, 24 VDD_PLL, 25 GND_PLL, 26 PLL_TEST, 27 OSC1, 28 OSC2

## PMOS
designator Q?
P-Channel Power MOSFET; Note: Pin 4 not drawn and electrically connected to Pin 2.; Published: 8-Jun-2000; LatestRevisionDate: 17-Jul-2002; LatestRevisionNote: Re-released for DXP Platform.; DatasheetVersion: PD-9.390D; PackageVersion: Feb-1997; PackageReference: TO-220AB; Publisher: Altium Limited; PackageDescription: TO, Thru-Hole, Vertical, Heatsink Mounted; 3 In-Line Leads; Pitch 2.54 mm; ComponentLink1Description: Manufacturer Link; ComponentLink1URL: http://www.irf.com/
footprint TO-220AB (TO, Thru-Hole, Vertical, Heatsink Mounted; 3 In-Line Leads; Pitch 2.54 mm)
footprint IRF640+散热片
footprint IRFP260带散热片
pins: 1 G, 2 D, 3 S

## PNP
designator Q?, comment 9012
PNP晶体管
footprint TO-92
footprint TO-92A
footprint SOT23-3
footprint TO-92B
footprint TO-92C (50mil)
pins: 1, 2, 3
2 alternate drawings of the same symbol

## PTN04050
designator U?
boost module
footprint PTN04050 (STEP-UP升压模块)
pins: 1 GND, 2 VIN, 3 ADJ, 4 VOUT

## RC522
designator U?
RC522读卡模块; 作者: 赵国涛
footprint 1001-8 (Connector; Header; 8 Position)
pins: 1 SDA, 2 SCK, 3 MOSI, 4 MISO, 5 IRQ, 6 GND, 7 RST, 8 VCC3V3

## RES
designator R?  value 10K  Footprint: 0603  (hidden comment: RES)
电阻; 作者: 赵国涛
footprint RES-0.2 (resister; 2 leads;200mil)
footprint 0805 (2012)
footprint RES-0.4 (resister; 2 leads;400mil)
footprint RES-0.6 (resister; 2 leads;600mil)
footprint 0603
footprint 0402
footprint 1W电阻
footprint 5W水泥电阻
pins: 1, 2
2 alternate drawings of the same symbol

## Res1
designator R?  value 1K  (hidden comment: Res1)
Resistor; Published: 8-Jun-2000; LatestRevisionDate: 17-Jul-2002; LatestRevisionNote: Re-released for DXP Platform.; PackageReference: AXIAL-0.3; Publisher: Altium Limited; PackageDescription: Axial Device, Thru-Hole; 2 Leads; 0.3 in Pin Spacing
footprint 0805 (2012)
footprint RES-0.2 (resister; 2 leads;200mil)
footprint RES-0.4 (resister; 2 leads;400mil)
footprint 0603
footprint 0402 (Chip Capacitor, Body 1.0x0.5mm, IPC High Density)
pins: 1, 2

## RES PACK
designator RP?
直插排阻; Auther: Garrett Zhao; Value: 10K
footprint RESPACK (resister pack;9 leads)
pins: 1 COM, 2 1, 3 2, 4 3, 5 4, 6 5, 7 6, 8 7, 9 8

## RES_S
designator RS?, comment 10K
光敏电阻; 作者: 赵国涛
footprint LED-A (LED-A; 2  leads)
pins: 1, 2
2 alternate drawings of the same symbol

## RP4
designator RA?, comment 4K7
贴片排阻; AEMS Code: 1300330
footprint RP4 (贴片排阻封装)
pins: 1, 2, 3, 4, 5, 6, 7, 8

## RPot
designator RP?
可变电阻
footprint VR5 (可变电阻2)
footprint VR4 (可变电阻)
footprint VR6 (可变电阻3; 200mil dot)
footprint R3296
pins: 1, 2, 3

## RT9193
designator U?
0.3A LDO; Published: 2014-4-4; LatestRevisionDate: 17-Jul-2002; LatestRevisionNote: Re-released for DXP Platform.; PackageReference: TO-263; Publisher: 赵国涛; Code_JEDEC: SMD-220
footprint SOT23-5 (SOT23, 5-Leads, Body 2.9x1.6mm, Pitch 0.95mm, Lead Span 2.8mm, IPC High Density)
pins: 1 VIN, 2 GND, 3 EN, 4 BP, 5 VO

## S8050
designator VT?, comment NPN
NPN Triode; Publisher: 赵国涛; Published: 20110228
footprint S8050 (TO-92 50mil)
pins: 1 B, 2 E, 3 C

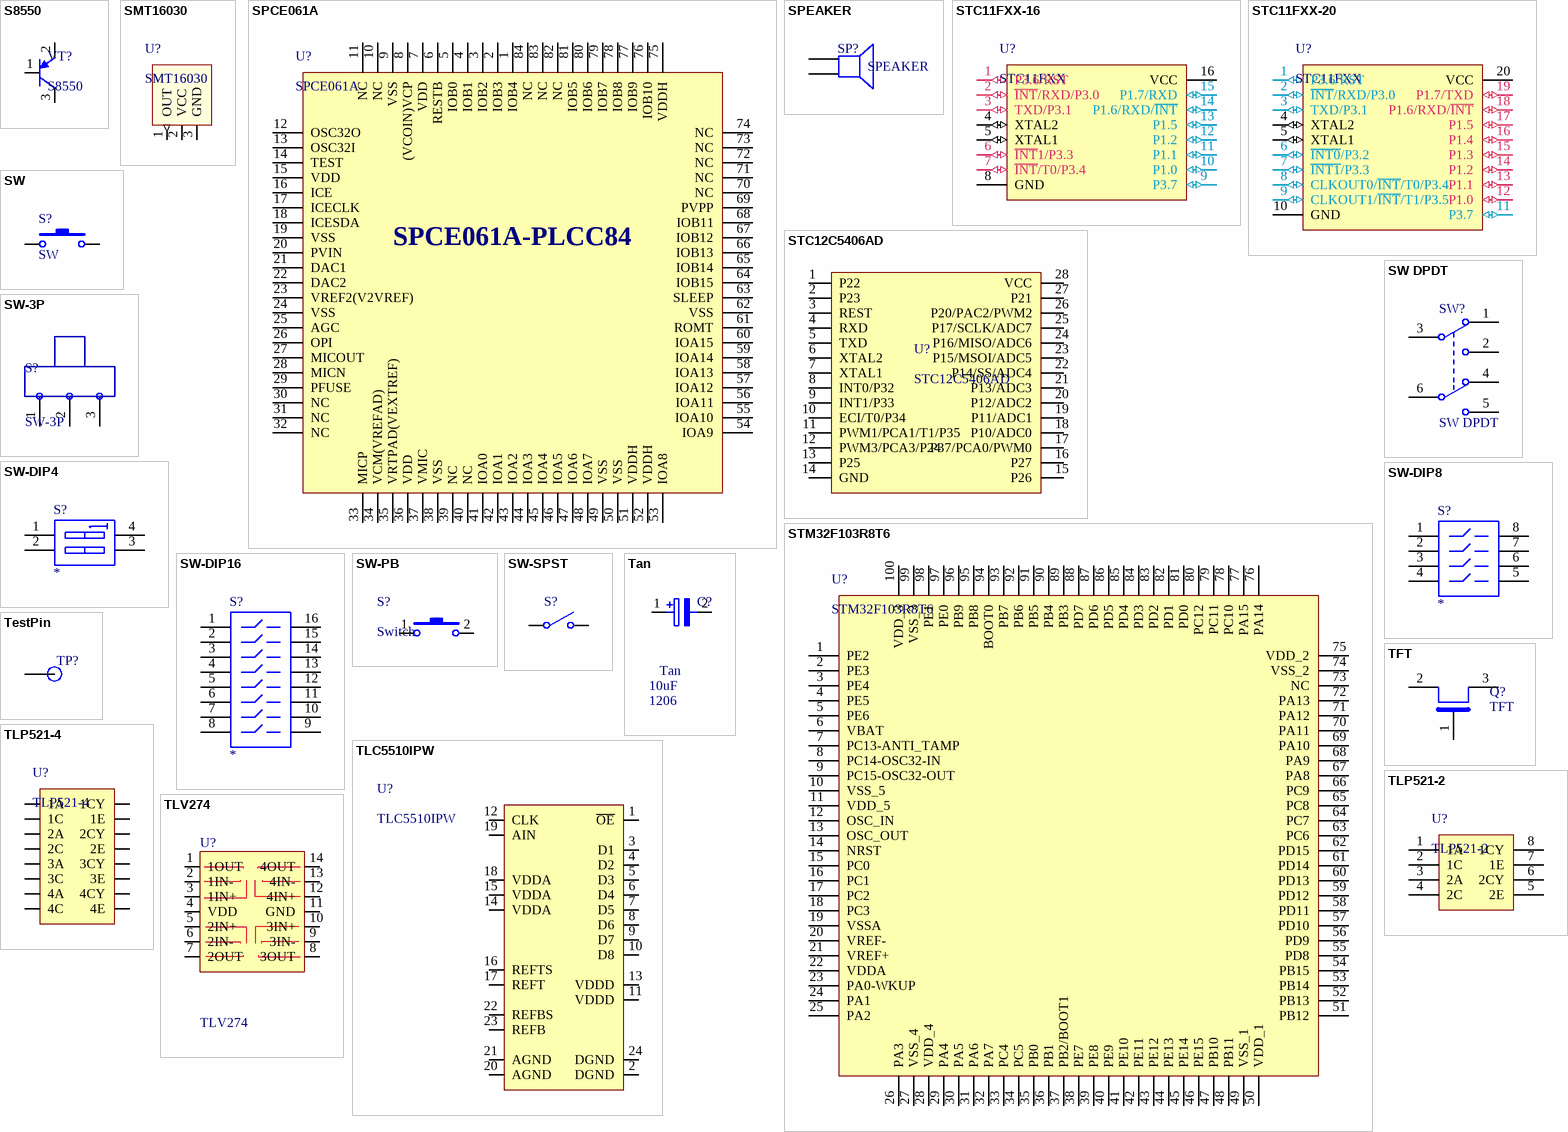
[diagram p6: symbols S8550 to TLV274]

## S8550
designator VT?
PNP Triode; Publisher: 赵国涛; Published: 20110228
footprint S8050 (TO-92 50mil)
pins: 1 B, 2 E, 3 C

## SMT16030
designator U?
数字温度传感器，+5V,占空比输出; Publisher: 赵国涛; Published: 20110228
footprint TO-18 (Can; 3 Leads; Pin Circle Dia. 2.54 mm; Lead Dia. 0.48 mm (max))
pins: 1 OUT (out), 2 VCC, 3 GND

## SPCE061A
designator U?
凌阳16位单片机; Publi: 赵国涛; Published: 20110709
footprint PGA84
pins: 1 IOB4, 2 IOB3, 3 IOB2, 4 IOB1, 5 IOB0, 6 RESTB, 7 VDD, 8 (VCOIN)VCP, 9 VSS, 10 NC, 11 NC, 12 OSC32O, 13 OSC32I, 14 TEST, 15 VDD, 16 ICE, 17 ICECLK, 18 ICESDA, 19 VSS, 20 PVIN, 21 DAC1, 22 DAC2, 23 VREF2(V2VREF), 24 VSS, 25 AGC, 26 OPI, 27 MICOUT, 28 MICN, 29 PFUSE, 30 NC, 31 NC, 32 NC, 33 MICP, 34 VCM(VREFAD), 35 VRTPAD(VEXTREF), 36 VDD, 37 VMIC, 38 VSS, 39 NC, 40 NC, 41 IOA0, 42 IOA1, 43 IOA2, 44 IOA3, 45 IOA4, 46 IOA5, 47 IOA6, 48 IOA7, 49 VSS, 50 VSS, 51 VDDH, 52 VDDH, 53 IOA8, 54 IOA9, 55 IOA10, 56 IOA11, 57 IOA12, 58 IOA13, 59 IOA14, 60 IOA15, 61 ROMT, 62 VSS, 63 SLEEP, 64 IOB15, 65 IOB14, 66 IOB13, 67 IOB12, 68 IOB11, 69 PVPP, 70 NC, 71 NC, 72 NC, 73 NC, 74 NC, 75 VDDH, 76 IOB10, 77 IOB9, 78 IOB8, 79 IOB7, 80 IOB6, 81 IOB5, 82 NC, 83 NC, 84 NC
text: SPCE061A-PLCC84

## SPEAKER
designator SP?
喇叭
footprint 1001-2 (Connector; Header; 2 Position)
pins: 1, 2

## STC11FXX-16
designator U?, comment STC11FXX
STC单片机; Publi: 赵国涛; Published: 20110225
footprint DIP-16 (CHAZUO)
footprint SOP-16 (SOP, 16-Leads, Body 10.0x4.0mm (max), Pitch 1.27mm, IPC Medium Density)
pins: 1 P3.6/RST (io), 2 ~{INT}/RXD/P3.0 (io), 3 TXD/P3.1 (io), 4 XTAL2 (io), 5 XTAL1 (io), 6 ~{INT}1/P3.3 (io), 7 ~{INT}/T0/P3.4 (io), 8 GND, 9 P3.7 (io), 10 P1.0 (io), 11 P1.1 (io), 12 P1.2 (io), 13 P1.5 (io), 14 P1.6/RXD/~{INT} (io), 15 P1.7/RXD (io), 16 VCC

## STC11FXX-20
designator U?, comment STC11FXX
STC8位单片机; Publisher: 赵国涛; Published: 20140304
footprint DIP-20 (WIDTH:300MIL)
footprint SOIC-20N (SOIC, 20-Leads, Body 13.0x7.6mm (max), Pitch 1.27mm, IPC Medium Density)
pins: 1 P3.6/RST (io), 2 ~{INT}/RXD/P3.0 (io), 3 TXD/P3.1 (io), 4 XTAL2 (io), 5 XTAL1 (io), 6 ~{INT0}/P3.2 (io), 7 ~{INT1}/P3.3 (io), 8 CLKOUT0/~{INT}/T0/P3.4 (io), 9 CLKOUT1/~{INT}/T1/P3.5 (io), 10 GND, 11 P3.7 (io), 12 P1.0 (io), 13 P1.1 (io), 14 P1.2 (io), 15 P1.3 (io), 16 P1.4 (io), 17 P1.5 (io), 18 P1.6/RXD/~{INT} (io), 19 P1.7/TXD (io), 20 VCC

## STC12C5406AD
designator U?
STC单片机
footprint DIP-28
pins: 1 P22, 2 P23, 3 REST, 4 RXD, 5 TXD, 6 XTAL2, 7 XTAL1, 8 INT0/P32, 9 INT1/P33, 10 ECI/T0/P34, 11 PWM1/PCA1/T1/P35, 12 PWM3/PCA3/P24, 13 P25, 14 GND, 15 P26, 16 P27, 17 P37/PCA0/PWM0, 18 P10/ADC0, 19 P11/ADC1, 20 P12/ADC2, 21 P13/ADC3, 22 P14/SS/ADC4, 23 P15/MSOI/ADC5, 24 P16/MISO/ADC6, 25 P17/SCLK/ADC7, 26 P20/PAC2/PWM2, 27 P21, 28 VCC

## STM32F103R8T6
designator U?
入门级ARM芯片; Publi: 赵国涛; Published: 20140304
footprint TQFP-100 (Thin QFP, 100-Leads, Body 14x14mm, Pitch 0.5mm, IPC High Density)
pins: 1 PE2, 2 PE3, 3 PE4, 4 PE5, 5 PE6, 6 VBAT, 7 PC13-ANTI_TAMP, 8 PC14-OSC32-IN, 9 PC15-OSC32-OUT, 10 VSS_5, 11 VDD_5, 12 OSC_IN, 13 OSC_OUT, 14 NRST, 15 PC0, 16 PC1, 17 PC2, 18 PC3, 19 VSSA, 20 VREF-, 21 VREF+, 22 VDDA, 23 PA0-WKUP, 24 PA1, 25 PA2, 26 PA3, 27 VSS_4, 28 VDD_4, 29 PA4, 30 PA5, 31 PA6, 32 PA7, 33 PC4, 34 PC5, 35 PB0, 36 PB1, 37 PB2/BOOT1, 38 PE7, 39 PE8, 40 PE9, 41 PE10, 42 PE11, 43 PE12, 44 PE13, 45 PE14, 46 PE15, 47 PB10, 48 PB11, 49 VSS_1, 50 VDD_1, 51 PB12, 52 PB13, 53 PB14, 54 PB15, 55 PD8, 56 PD9, 57 PD10, 58 PD11, 59 PD12, 60 PD13, 61 PD14, 62 PD15, 63 PC6, 64 PC7, 65 PC8, 66 PC9, 67 PA8, 68 PA9, 69 PA10, 70 PA11, 71 PA12, 72 PA13, 73 NC, 74 VSS_2, 75 VDD_2, 76 PA14, 77 PA15, 78 PC10, 79 PC11, 80 PC12, 81 PD0, 82 PD1, 83 PD2, 84 PD3, 85 PD4, 86 PD5, 87 PD6, 88 PD7, 89 PB3, 90 PB4, 91 PB5, 92 PB6, 93 PB7, 94 BOOT0, 95 PB8, 96 PB9, 97 PE0, 98 PE1, 99 VSS_3, 100 VDD_3

## SW
designator S?
2引脚贴片轻触按键; Published: 24-Mar-1999; LatestRevisionDate: 17-Jul-2002; LatestRevisionNote: Re-released for DXP Platform.; PackageReference: SPST-2; Publisher: Altium Limited; PackageDescription: Switch; 2 Leads
footprint SW (SW贴片轻触开关)
pins: 1, 2

## SW DPDT
designator SW?
自锁开关; Published: 24-Mar-1999; LatestRevisionDate: 17-Jul-2002; LatestRevisionNote: Re-released for DXP Platform.; PackageReference: SW-DPDT; Publisher: Altium Limited
footprint SW-DPDT (自锁开关;6 leads;大型)
footprint SW-DPDT-S (小封装自锁开关;6 leads；小型)
pins: 1 NC1, 2 NO1, 3 COMMON1, 4 NC2, 5 NO2, 6 COMMON2

## SW-3P
designator S?
小型拨动开关,引脚间距2mm; Published: 24-Mar-1999; LatestRevisionDate: 17-Dec-2003; LatestRevisionNote: Schematic revised, PCB Footprint replaced.; DatasheetVersion: 05-Dec-2000; PackageReference: TL36WW15050; Publisher: Altium Limited; PackageDescription: Switch; 4 Leads; ComponentLink1Description: Manufacturer Link; ComponentLink1URL: http://www.apem.com
footprint SK-12D07 (小型拨动开关 3脚2档，引脚间距2mm。)
pins: 1, 2, 3

## SW-DIP4
designator S?
2位拨码开关
footprint DIP-4
pins: 1 A1, 2 A2, 3 B2, 4 B1

## SW-DIP8
designator S?
4位拨码开关
footprint DIP-8
pins: 1, 2, 3, 4, 5, 6, 7, 8

## SW-DIP16
designator S?
8位拨码开关
footprint DIP-16-KEY
pins: 1, 2, 3, 4, 5, 6, 7, 8, 9, 10, 11, 12, 13, 14, 15, 16

## SW-PB
designator S?, comment Switch
4引脚轻触按键
footprint SW-DPST (only for SW-DPST)
footprint SW-DPST - 转贴片 (only for SW-DPST)
footprint SWITCH (贴片轻触开关)
footprint SW-DPST - L (only for SW-DPST)
pins: 1, 2

## SW-SPST
designator S?
Single-Pole, Single-Throw Switch; Published: 24-Mar-1999; LatestRevisionDate: 17-Jul-2002; LatestRevisionNote: Re-released for DXP Platform.; PackageReference: SPST-2; Publisher: Altium Limited; PackageDescription: Switch; 2 Leads
footprint SPST-2 (Switch; 2 Leads)
pins: 1 COMMON, 2 NO

## Tan
designator C?  value 10uF  Footprint: 1206
钽电容; 作者: 赵国涛; 类型: 钽电容
footprint 2917
footprint 0805 (2012)
footprint RB.2/.4 (电解电容封装；200mil；400Mil外径)
footprint 1206
footprint 5032
footprint 1812
pins: 1, 2
2 alternate drawings of the same symbol

## TestPin
designator TP?  (no BOM)
测试端子
footprint TP
footprint tp-1 (测试端子)
footprint TP-2 (表面测试端子)
pins: 1

## TFT
designator Q?
Note: Pin 2 is electrically connected to pin 4.; Published: 8-Jun-2000; LatestRevisionDate: 17-Jul-2002; LatestRevisionNote: Re-released for DXP Platform.; DatasheetVersion: PD-9.814; PackageVersion: Feb-1997; PackageReference: TO-220AB; Publisher: Altium Limited; PackageDescription: TO, Thru-Hole, Vertical, Heatsink Mounted; 3 In-Line Leads; Pitch 2.54 mm; ComponentLink1Description: Manufacturer Link; ComponentLink1URL: http://www.irf.com/
footprint SOT23-3
pins: 1 B, 2 C, 3 E

## TLC5510IPW
designator U?
8-BIT HIGH-SPEED ADC; 封装: TSSOP-24(PW)
footprint TSSOP-24 (Footprint not found)
pins: 1 ~{OE}, 2 DGND, 3 D1, 4 D2, 5 D3, 6 D4, 7 D5, 8 D6, 9 D7, 10 D8, 11 VDDD, 12 CLK, 13 VDDD, 14 VDDA, 15 VDDA, 16 REFTS, 17 REFT, 18 VDDA, 19 AIN, 20 AGND, 21 AGND, 22 REFBS, 23 REFB, 24 DGND

## TLP521-2
designator U?
光耦
footprint DIP-8
pins: 1 1A, 2 1C, 3 2A, 4 2C, 5 2E, 6 2CY, 7 1E, 8 1CY

## TLP521-4
designator U?
光耦,4个封装在一起。
footprint DIP-16 (CHAZUO)
pins: 1 1A, 2 1C, 3 2A, 4 2C, 5 3A, 6 3C, 7 4A, 8 4C, 9 4E, 10 4CY, 11 3E, 12 3CY, 13 2E, 14 2CY, 15 1E, 16 1CY

## TLV274
designator U?
550uA/CH 3-MHz rail-to-rail output operational amplifier; Published: 10-Feb-2010; DatasheetVersion: Rev.2.00, Feb-2005; PackageVersion: Sep-2005; PackageReference: PRDP0014AB-B; Publisher: Altium Limited; PackageDescription: 14-Pin Plastic DIP, 19.2 x 6.3 mm Body, 7.62 mm Row Spacing, Pitch 2.54 mm; Code_JEITA: P-DIP14-6.3x19.2-2.54; ComponentLink1Description: Manufacturer Link; ComponentLink1URL: http://sg.renesas.com/fmwk.jsp?cnt=hd74ls_root.jsp&fp=/products/standard_ic/general_purpose_logic/5v_standard_logic/hd74ls/; ComponentLink2Description: Datasheet; ComponentLink2URL: http://documentation.renesas.com/eng/products/logic/rej03d0448_hd74ls164.pdf; ComponentLink3Description: Packaging Specification; ComponentLink3URL: http://sg.renesas.com/media/products/common_info/package/pdf/ic/code/prdp0014ab_b.pdf
footprint DIP-14
footprint SOP-14 (SOP, 14-Leads, Body 8.7x3.9mm (max), Pitch 1.27mm, IPC Medium Density)
pins: 1 1OUT, 2 1IN-, 3 1IN+, 4 VDD, 5 2IN+, 6 2IN-, 7 2OUT, 8 3OUT, 9 3IN-, 10 3IN+, 11 GND, 12 4IN+, 13 4IN-, 14 4OUT

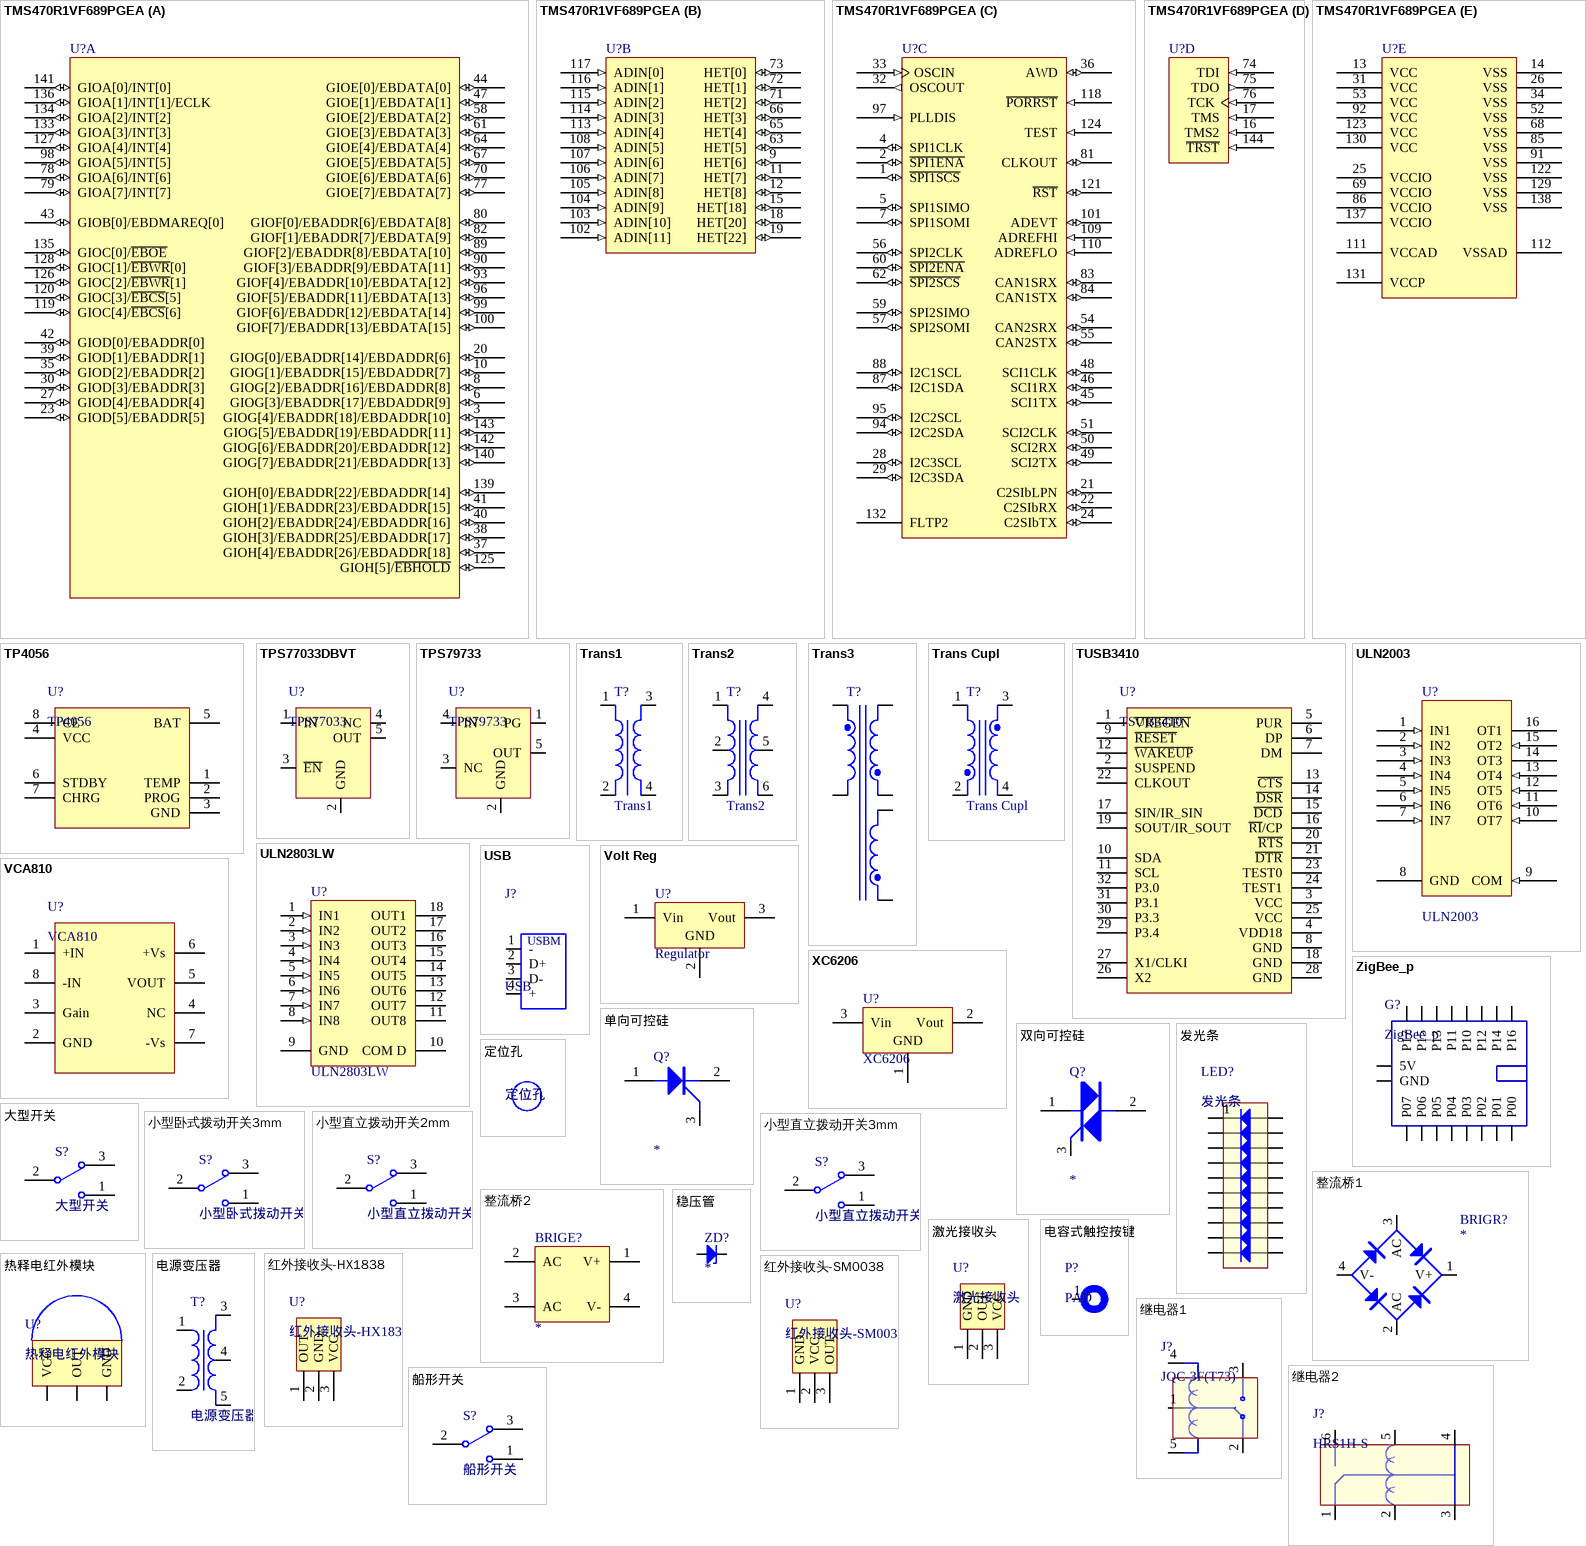
[diagram p7: symbols TMS470R1VF689PGEA to 船形开关]

## TMS470R1VF689PGEA
designator U?
ARM7TDMI 16/32-Bit RISC Automotive MCU, 384KB Flash, 32KB RAM, 144-pin LQFP, -40篊 to 85篊; Published: 30-Mar-2007; DatasheetVersion: Aug-2005; PackageVersion: Dec-1996; PackageReference: PGE144; Publisher: Altium Limited; PackageDescription: 144-Pin Thin Quad Flat Pack 0.5 mm Pitch; ComponentLink1Description: Manufacturer Link; ComponentLink1URL: http://www.ti.com/; ComponentLink2Description: Datasheet; ComponentLink2URL: http://focus.ti.com/lit/ds/symlink/tms470r1vf689.pdf
footprint TQFP-144 (Thin QFP, 144-Leads, Body 20x20mm, Pitch 0.5mm, IPC High Density)
part A pins: 3 GIOG[4]/EBADDR[18]/EBDADDR[10] (io), 6 GIOG[3]/EBADDR[17]/EBDADDR[9] (io), 8 GIOG[2]/EBADDR[16]/EBDADDR[8] (io), 10 GIOG[1]/EBADDR[15]/EBDADDR[7] (io), 20 GIOG[0]/EBADDR[14]/EBDADDR[6] (io), 23 GIOD[5]/EBADDR[5] (io), 27 GIOD[4]/EBADDR[4] (io), 30 GIOD[3]/EBADDR[3] (io), 35 GIOD[2]/EBADDR[2] (io), 37 GIOH[4]/EBADDR[26]/EBDADDR[18] (io), 38 GIOH[3]/EBADDR[25]/EBDADDR[17] (io), 39 GIOD[1]/EBADDR[1] (io), 40 GIOH[2]/EBADDR[24]/EBDADDR[16] (io), 41 GIOH[1]/EBADDR[23]/EBDADDR[15] (io), 42 GIOD[0]/EBADDR[0] (io), 43 GIOB[0]/EBDMAREQ[0] (io), 44 GIOE[0]/EBDATA[0] (io), 47 GIOE[1]/EBDATA[1] (io), 58 GIOE[2]/EBDATA[2] (io), 61 GIOE[3]/EBDATA[3] (io), 64 GIOE[4]/EBDATA[4] (io), 67 GIOE[5]/EBDATA[5] (io), 70 GIOE[6]/EBDATA[6] (io), 77 GIOE[7]/EBDATA[7] (io), 78 GIOA[6]/INT[6] (io), 79 GIOA[7]/INT[7] (io), 80 GIOF[0]/EBADDR[6]/EBDATA[8] (io), 82 GIOF[1]/EBADDR[7]/EBDATA[9] (io), 89 GIOF[2]/EBADDR[8]/EBDATA[10] (io), 90 GIOF[3]/EBADDR[9]/EBDATA[11] (io), 93 GIOF[4]/EBADDR[10]/EBDATA[12] (io), 96 GIOF[5]/EBADDR[11]/EBDATA[13] (io), 98 GIOA[5]/INT[5] (io), 99 GIOF[6]/EBADDR[12]/EBDATA[14] (io), 100 GIOF[7]/EBADDR[13]/EBDATA[15] (io), 119 GIOC[4]/~{EBCS}[6] (io), 120 GIOC[3]/~{EBCS}[5] (io), 125 GIOH[5]/~{EBHOLD} (io), 126 GIOC[2]/~{EBWR}[1] (io), 127 GIOA[4]/INT[4] (io), 128 GIOC[1]/~{EBWR}[0] (io), 133 GIOA[3]/INT[3] (io), 134 GIOA[2]/INT[2] (io), 135 GIOC[0]/~{EBOE} (io), 136 GIOA[1]/INT[1]/ECLK (io), 139 GIOH[0]/EBADDR[22]/EBDADDR[14] (io), 140 GIOG[7]/EBADDR[21]/EBDADDR[13] (io), 141 GIOA[0]/INT[0] (io), 142 GIOG[6]/EBADDR[20]/EBDADDR[12] (io), 143 GIOG[5]/EBADDR[19]/EBDADDR[11] (io)
part B pins: 9 HET[6] (io), 11 HET[7] (io), 12 HET[8] (io), 15 HET[18] (io), 18 HET[20] (io), 19 HET[22] (io), 63 HET[5] (io), 65 HET[4] (io), 66 HET[3] (io), 71 HET[2] (io), 72 HET[1] (io), 73 HET[0] (io), 102 ADIN[11] (in), 103 ADIN[10] (in), 104 ADIN[9] (in), 105 ADIN[8] (in), 106 ADIN[7] (in), 107 ADIN[6] (in), 108 ADIN[5] (in), 113 ADIN[4] (in), 114 ADIN[3] (in), 115 ADIN[2] (in), 116 ADIN[1] (in), 117 ADIN[0] (in)
part C pins: 1 ~{SPI1SCS} (io), 2 ~{SPI1ENA} (io), 4 SPI1CLK (io), 5 SPI1SIMO (io), 7 SPI1SOMI (io), 21 C2SIbLPN (io), 22 C2SIbRX (io), 24 C2SIbTX (io), 28 I2C3SCL (io), 29 I2C3SDA (io), 32 OSCOUT (out), 33 OSCIN (in), 36 AWD (io), 45 SCI1TX (io), 46 SCI1RX (io), 48 SCI1CLK (io), 49 SCI2TX (io), 50 SCI2RX (io), 51 SCI2CLK (io), 54 CAN2SRX (io), 55 CAN2STX (io), 56 SPI2CLK (io), 57 SPI2SOMI (io), 59 SPI2SIMO (io), 60 ~{SPI2ENA} (io), 62 ~{SPI2SCS} (io), 81 CLKOUT (io), 83 CAN1SRX (io), 84 CAN1STX (io), 87 I2C1SDA (io), 88 I2C1SCL (io), 94 I2C2SDA (io), 95 I2C2SCL (io), 97 PLLDIS (in), 101 ADEVT (io), 109 ADREFHI (in), 110 ADREFLO (in), 118 ~{PORRST} (in), 121 ~{RST} (io), 124 TEST (in), 132 FLTP2
part D pins: 16 TMS2 (in), 17 TMS (in), 74 TDI (in), 75 TDO (out), 76 TCK (in), 144 ~{TRST} (in)
part E pins: 13 VCC (power), 14 VSS (power), 25 VCCIO (power), 26 VSS (power), 31 VCC (power), 34 VSS (power), 52 VSS (power), 53 VCC (power), 68 VSS (power), 69 VCCIO (power), 85 VSS (power), 86 VCCIO (power), 91 VSS (power), 92 VCC (power), 111 VCCAD (power), 112 VSSAD (power), 122 VSS (power), 123 VCC (power), 129 VSS (power), 130 VCC (power), 131 VCCP (power), 137 VCCIO (power), 138 VSS (power)

## TP4056
designator U?
1A锂离子电池充电器; Publisher: 赵国涛; Published: 20110214
footprint SOP-8
pins: 1 TEMP, 2 PROG, 3 GND, 4 VCC, 5 BAT, 6 STDBY, 7 CHRG, 8 CE

## TPS77033DBVT
designator U?, comment TPS77033
ULTRALOW-POWER 50-mA LOW-DROPOUT LINEAR REGULATORS; 封装: 5-Pin SOT-23 (DBV)
footprint SOT23-5 (SOT23, 5-Leads, Body 2.9x1.6mm, Pitch 0.95mm, Lead Span 2.8mm, IPC High Density)
pins: 1 IN, 2 GND, 3 ~{EN}, 4 NC, 5 OUT

## TPS79733
designator U?
Ultralow I Q  , 50mA LDO Linear Regulators with Power Good Output  in SC70 Package; 封装: SC70
footprint SOT23-5 (SOT23, 5-Leads, Body 2.9x1.6mm, Pitch 0.95mm, Lead Span 2.8mm, IPC High Density)
pins: 1 PG, 2 GND, 3 NC, 4 IN, 5 OUT

## Trans1
designator T?
Transformer (Equivalent Circuit Model); Published: 8-Jun-2000; LatestRevisionDate: 17-Jul-2002; LatestRevisionNote: Re-released for DXP Platform.; PackageReference: TRF_4; Publisher: Altium Limited; PackageDescription: Transformer; 4 Leads
footprint TRF_4 (Transformer; 4 Leads)
footprint 共模线圈
pins: 1 Pri+, 2 Pri-, 3 Sec+, 4 Sec-

## Trans2
designator T?
Center-Tapped Transformer (Coupled Inductor Model); Published: 8-Jun-2000; LatestRevisionDate: 17-Jul-2002; LatestRevisionNote: Re-released for DXP Platform.; PackageReference: TRF_5; Publisher: Altium Limited; PackageDescription: Transformer; 5 Leads
footprint TRF_6 (Transformer; 6 Leads)
pins: 1 Pri+, 2, 3 Pri-, 4 Sec+, 5 SecCT, 6 Sec-

## Trans3
designator T?
Three-winding Transformer (Non-Ideal); Sim Note: Enter the turns ratios, Core loss resistance, Magnetising Reactance, Leakage Reactances and Resistances referred to the primary side into the parameter fields.; Published: 25-Jan-2001; LatestRevisionDate: 17-Jul-2002; LatestRevisionNote: Re-released for DXP Platform.; PackageReference: TRF_6; Publisher: Altium Limited; PackageDescription: Transformer; 6 Leads
footprint TRF_6 (Transformer; 6 Leads)
pins: 1 Pri+, 2 Pri-, 3 Sec1+, 4 Sec1-, 5 Sec2+, 6 Sec2-

## Trans Cupl
designator T?
变压器; Published: 8-Jun-2000; LatestRevisionDate: 17-Jul-2002; LatestRevisionNote: Re-released for DXP Platform.; PackageReference: TRF_4; Publisher: Altium Limited; PackageDescription: Transformer; 4 Leads
footprint TRF_4 (Transformer; 4 Leads)
pins: 1 Pri+, 2 Pri-, 3 Sec+, 4 Sec-

## TUSB3410
designator U?, comment TSUB3410
USB to Serial Port Controller
footprint TQFP-32N (Thin QFP, 32-Leads, Body 7x7mm, Pitch 0.8mm, IPC Medium Density)
pins: 1 ~{VREGEN}, 2 SUSPEND, 3 VCC, 4 VDD18, 5 PUR, 6 DP, 7 DM, 8 GND, 9 ~{RESET}, 10 SDA, 11 SCL, 12 ~{WAKEUP}, 13 ~{CTS}, 14 ~{DSR}, 15 ~{DCD}, 16 ~{RI}/CP, 17 SIN/IR_SIN, 18 GND, 19 SOUT/IR_SOUT, 20 ~{RTS}, 21 ~{DTR}, 22 CLKOUT, 23 TEST0, 24 TEST1, 25 VCC, 26 X2, 27 X1/CLKI, 28 GND, 29 P3.4, 30 P3.3, 31 P3.1, 32 P3.0

## ULN2003
designator U?
达林顿驱动
footprint DIP-16 (CHAZUO)
pins: 1 IN1 (in), 2 IN2 (in), 3 IN3 (in), 4 IN4 (in), 5 IN5 (in), 6 IN6 (in), 7 IN7 (in), 8 GND (power), 9 COM (in), 10 OT7 (in), 11 OT6 (in), 12 OT5 (in), 13 OT4 (in), 14 OT3 (hiz), 15 OT2 (in), 16 OT1 (power)

## ULN2803LW
designator U?
High-Voltage, High-Current Darlington Array; Published: 13-Oct-2000; LatestRevisionDate: 17-Jul-2002; LatestRevisionNote: Re-released for DXP Platform.; DatasheetDocument: 1999; PackageReference: LW18; Publisher: Altium Limited; Code_JEDEC: MS-013-AB
footprint DIP-18 (Footprint not found)
pins: 1 IN1 (in), 2 IN2 (in), 3 IN3 (in), 4 IN4 (in), 5 IN5 (in), 6 IN6 (in), 7 IN7 (in), 8 IN8 (in), 9 GND (power), 10 COM D, 11 OUT8 (oc), 12 OUT7 (oc), 13 OUT6 (oc), 14 OUT5 (oc), 15 OUT4 (oc), 16 OUT3 (oc), 17 OUT2 (oc), 18 OUT1 (oc)
2 alternate drawings of the same symbol

## USB
designator J?
USB接口;普通的，电脑等 用
footprint USB - M
footprint USB-B (USB-B; D type)
footprint USB_A_公头
pins: 1 -, 2 D+, 3 D-, 4 +
text: USBM

## VCA810
designator U?
Publisher: 胡浩; Published: 20110809z
footprint SOIC-8N (SOIC, 8-Leads, Body 5.0x4.0mm (max), Pitch 1.27mm, IPC Medium Density)
pins: 1 +IN, 2 GND, 3 Gain, 4 NC, 5 VOUT, 6 +Vs, 7 -Vs, 8 -IN

## Volt Reg
designator U?, comment Regulator
Voltage Regulator; Published: 24-Mar-1999; LatestRevisionDate: 17-Jul-2002; LatestRevisionNote: Re-released for DXP Platform.; PackageReference: D2PAK; Publisher: Altium Limited; Code_JEDEC: SMD-220
footprint TO-220AB
footprint TO-263
footprint SOT89L (SOT89, 3-Leads, Body 4.5x2.4 mm, Pitch 1.5mm, Lead Span 4.1mm, IPC High Density)
pins: 1 Vin, 2 GND, 3 Vout
2 alternate drawings of the same symbol

## XC6206
designator U?
0.5A LDO; Published: 24-Mar-1999; LatestRevisionDate: 17-Jul-2002; LatestRevisionNote: Re-released for DXP Platform.; PackageReference: D2PAK; Publisher: Altium Limited; Code_JEDEC: SMD-220
footprint SOT23-3
pins: 1 VSS, 2 Vout, 3 Vin
2 alternate drawings of the same symbol

## ZigBee_p
designator G?
footprint ZIGBEE外形 (我的ZigBee外形尺寸)
pins: 1 P07, 2 P06, 3 P05, 4 P04, 5 P03, 6 P02, 7 P01, 8 P00, 9 GND, 10 5V, 11 P17, 12 P15, 13 P13, 14 P11, 15 P10, 16 P12, 17 P14, 18 P16

## 单向可控硅
designator Q?
单向可控硅
footprint TO-220AB
pins: 1 A, 2 K, 3 G

## 双向可控硅
designator Q?
双向可控硅
footprint TO-220AB
pins: 1 T, 2 T, 3 G

## 发光条
designator LED?
LED发光条; Publisher: 赵国涛; Published: 20110523
footprint DIP-20 (WIDTH:300MIL)
pins: 1, 2, 3, 4, 5, 6, 7, 8, 9, 10, 11, 12, 13, 14, 15, 16, 17, 18, 19, 20

## 大型开关
designator S?
Published: 24-Mar-1999; LatestRevisionDate: 17-Dec-2003; LatestRevisionNote: Schematic revised, PCB Footprint replaced.; DatasheetVersion: 05-Dec-2000; PackageReference: TL36WW15050; Publisher: Altium Limited; PackageDescription: Switch; 4 Leads; ComponentLink1Description: Manufacturer Link; ComponentLink1URL: http://www.apem.com
footprint SW-1 (三端开关；大电流，引脚间距7.484mm)
pins: 1, 2, 3

## 定位孔
designator M?
螺纹孔
footprint 定位孔 Φ3 1

## 小型卧式拨动开关3mm
designator S?
小型拨动开关卧，式,引脚间距3mm; Published: 24-Mar-1999; LatestRevisionDate: 17-Dec-2003; LatestRevisionNote: Schematic revised, PCB Footprint replaced.; DatasheetVersion: 05-Dec-2000; PackageReference: TL36WW15050; Publisher: Altium Limited; PackageDescription: Switch; 4 Leads; ComponentLink1Description: Manufacturer Link; ComponentLink1URL: http://www.apem.com
footprint SW-1 X 2 (3mm间距)
pins: 1, 2, 3

## 小型直立拨动开关2mm
designator S?
小型拨动开关,引脚间距2mm; Published: 24-Mar-1999; LatestRevisionDate: 17-Dec-2003; LatestRevisionNote: Schematic revised, PCB Footprint replaced.; DatasheetVersion: 05-Dec-2000; PackageReference: TL36WW15050; Publisher: Altium Limited; PackageDescription: Switch; 4 Leads; ComponentLink1Description: Manufacturer Link; ComponentLink1URL: http://www.apem.com
footprint SK-12D07 (小型拨动开关 3脚2档，引脚间距2mm。)
pins: 1, 2, 3

## 小型直立拨动开关3mm
designator S?
小型拨动开关,引脚间距3mm; Published: 24-Mar-1999; LatestRevisionDate: 17-Dec-2003; LatestRevisionNote: Schematic revised, PCB Footprint replaced.; DatasheetVersion: 05-Dec-2000; PackageReference: TL36WW15050; Publisher: Altium Limited; PackageDescription: Switch; 4 Leads; ComponentLink1Description: Manufacturer Link; ComponentLink1URL: http://www.apem.com
footprint SS-12F44 (开关,引脚间距3mm)
pins: 1, 2, 3

## 整流桥1
designator BRIGR?
整流桥1
footprint BRIDGE3
footprint 大整流桥
pins: 1 V+, 2 AC, 3 AC, 4 V-

## 整流桥2
designator BRIGE?
整流桥2
footprint BRIDGE3 (Footprint not found)
footprint 大整流桥
pins: 1 V+, 2 AC, 3 AC, 4 V-

## 激光接收头
designator U?
三脚接收头,常态低
footprint 1001-3 (Connector; Header; 3 Position)
pins: 1 GND, 2 OUT, 3 VCC

## 热释电红外模块
designator U?
探测生物。vcc out gnd. 5V supply
footprint 红外热释电模块
pins: 1 VCC, 2 OUT, 3 GND

## 电容式触控按键
designator P?, comment PAD
电容式触控按键
footprint Cap_Touch (电容式触控按键)
pins: 1

## 电源变压器
designator T?
2输出电源变压器; Published: 8-Jun-2000; LatestRevisionDate: 17-Jul-2002; LatestRevisionNote: Re-released for DXP Platform.; PackageReference: TRF_5; Publisher: Altium Limited; PackageDescription: Transformer; 5 Leads
footprint TRF_5 (Transformer; 5 Leads)
pins: 1 Pri+, 2 Pri-, 3 Sec+, 4 SecCT, 5 Sec-

## 稳压管
designator ZD?
Zener Diode; Publisher: 胡浩; Published: 20120620
footprint 1206
footprint SMA/DO-214AC (Molded Diode, 2-Leads, Body 4.3x2.7mm, IPC Medium Density)
pins: 1, 2

## 红外接收头-HX1838
designator U?
带铁壳的一体化万能红外接收头HX1838，      品牌: SONTEEN/松藤
footprint 红外接收头 (2.54mm)
pins: 1 OUT, 2 GND, 3 VCC

## 红外接收头-SM0038
designator U?
不带铁壳的一体化万能红外接收头SM0038，电源：5V
footprint 红外接收头 (2.54mm)
pins: 1 GND, 2 VCC, 3 OUT

## 继电器1
designator J?, comment JQC-3F(T73)
继电器，型号：JQC-3F   5VDC、12VDC、24VDC; 型号: JQC-3F(T73)
footprint JQC-3F (继电器封装)
pins: 1, 2, 3, 4, 5

## 继电器2
designator J?, comment HRS1H-S
继电器，型号：HRS1H-S   5VDC; 型号: HRS1H-S
footprint HRS1H-S (继电器封装,继电器型号：HRS1H-S)
footprint 继电器-HRS1H-SDC5V
pins: 1, 2, 3, 4, 5, 6

## 船形开关
designator S?
Published: 24-Mar-1999; LatestRevisionDate: 17-Dec-2003; LatestRevisionNote: Schematic revised, PCB Footprint replaced.; DatasheetVersion: 05-Dec-2000; PackageReference: TL36WW15050; Publisher: Altium Limited; PackageDescription: Switch; 4 Leads; ComponentLink1Description: Manufacturer Link; ComponentLink1URL: http://www.apem.com
footprint SW-2 (船型开关)
pins: 1, 2, 3

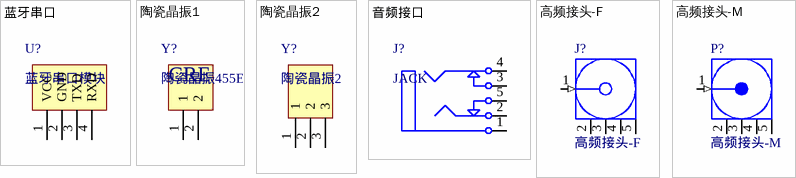
[diagram p8: symbols 蓝牙串口 to 高频接头-M]

## 蓝牙串口
designator U?, comment 蓝牙串口模块
HC-06蓝牙串口模块; 作者: 赵国涛
footprint 1001-4 (Connector; Header; 4 Position)
pins: 1 VCC, 2 GND, 3 TXD, 4 RXD

## 陶瓷晶振1
designator Y?, comment 陶瓷晶振455E
footprint RAD-0.1 (Radial Cap, Thru-Hole; 2 Leads; 0.1 in Pin Spacing)
pins: 1, 2
text: CRE

## 陶瓷晶振2
designator Y?
陶瓷晶振2,3-PIN;100mil
footprint 1001-3 (Connector; Header; 3 Position)
pins: 1, 2, 3

## 音频接口
designator J?, comment JACK
音频接口JACK
footprint 音频接口 (5-pin;100mil)
pins: 1, 2, 3, 4, 5

## 高频接头-F
designator J?
RF Coaxial PCB Connector, MCX; Thru-Hole, Right-Angle Mount Socket, Blunt Post Terminal, 50 Ohm Impedance; PCB_Layout: Complies with manufacturer's recommendation.; DrillSize: Corresponds to nominal value.; Published: 15-Jul-2004; LatestRevisionDate: 15-Jul-2004; LatestRevisionNote: Component Replaced.; DatasheetDocument: 30-May-2003; PackageDocument: 04-Jul-1999; PackageReference: 919-119J-51AX; Publisher: Altium Limited; ComponentLink1Description: Manufacturer Link; ComponentLink1URL: http://www.amphenolrf.com/
footprint MCX5.08-H5 (Connector; RF Coaxial, MCX, Thru-Hole; 5 Position; Right-Angle)
footprint SMB_V-RJ45 (Connector; SMB Straight)
pins: 1 Signal (in) "Signal Pin", 2 GND (power), 3 GND (power), 4 GND (power), 5 GND (power)

## 高频接头-M
designator P?
RF Coaxial PCB Connector, MMCX; Thru-Hole, Vertical Mount Plug,  50 Ohm Impedance; PackageDocument: Rev. A, 16-Jun-1997; PCB_Layout: Complies with manufacturer's recommendation.; DrillSize: Corresponds to nominal value.; Published: 15-Jul-2004; LatestRevisionDate: 15-Jul-2004; LatestRevisionNote: Component Replaced.; DatasheetDocument: 30-May-2003; PackageReference: 908-21103; Publisher: Altium Limited; ComponentLink1Description: Manufacturer Link; ComponentLink1URL: http://www.amphenolrf.com/
footprint MMCX2.54-V5 (Connector; RF Coaxial, MMCX, Thru-Hole; 5 Position; Vertical)
footprint SMB_V-RJ45 (Connector; SMB Straight)
footprint MCX5.08-H5 (Connector; RF Coaxial, MCX, Thru-Hole; 5 Position; Right-Angle)
pins: 1 Signal (in) "Signal Pin", 2 GND (power), 3 GND (power), 4 GND (power), 5 GND (power)